# Altium schematic symbol library VC099_V13_20211125_Library.SchLib: 284 symbols (part 22 of 28)
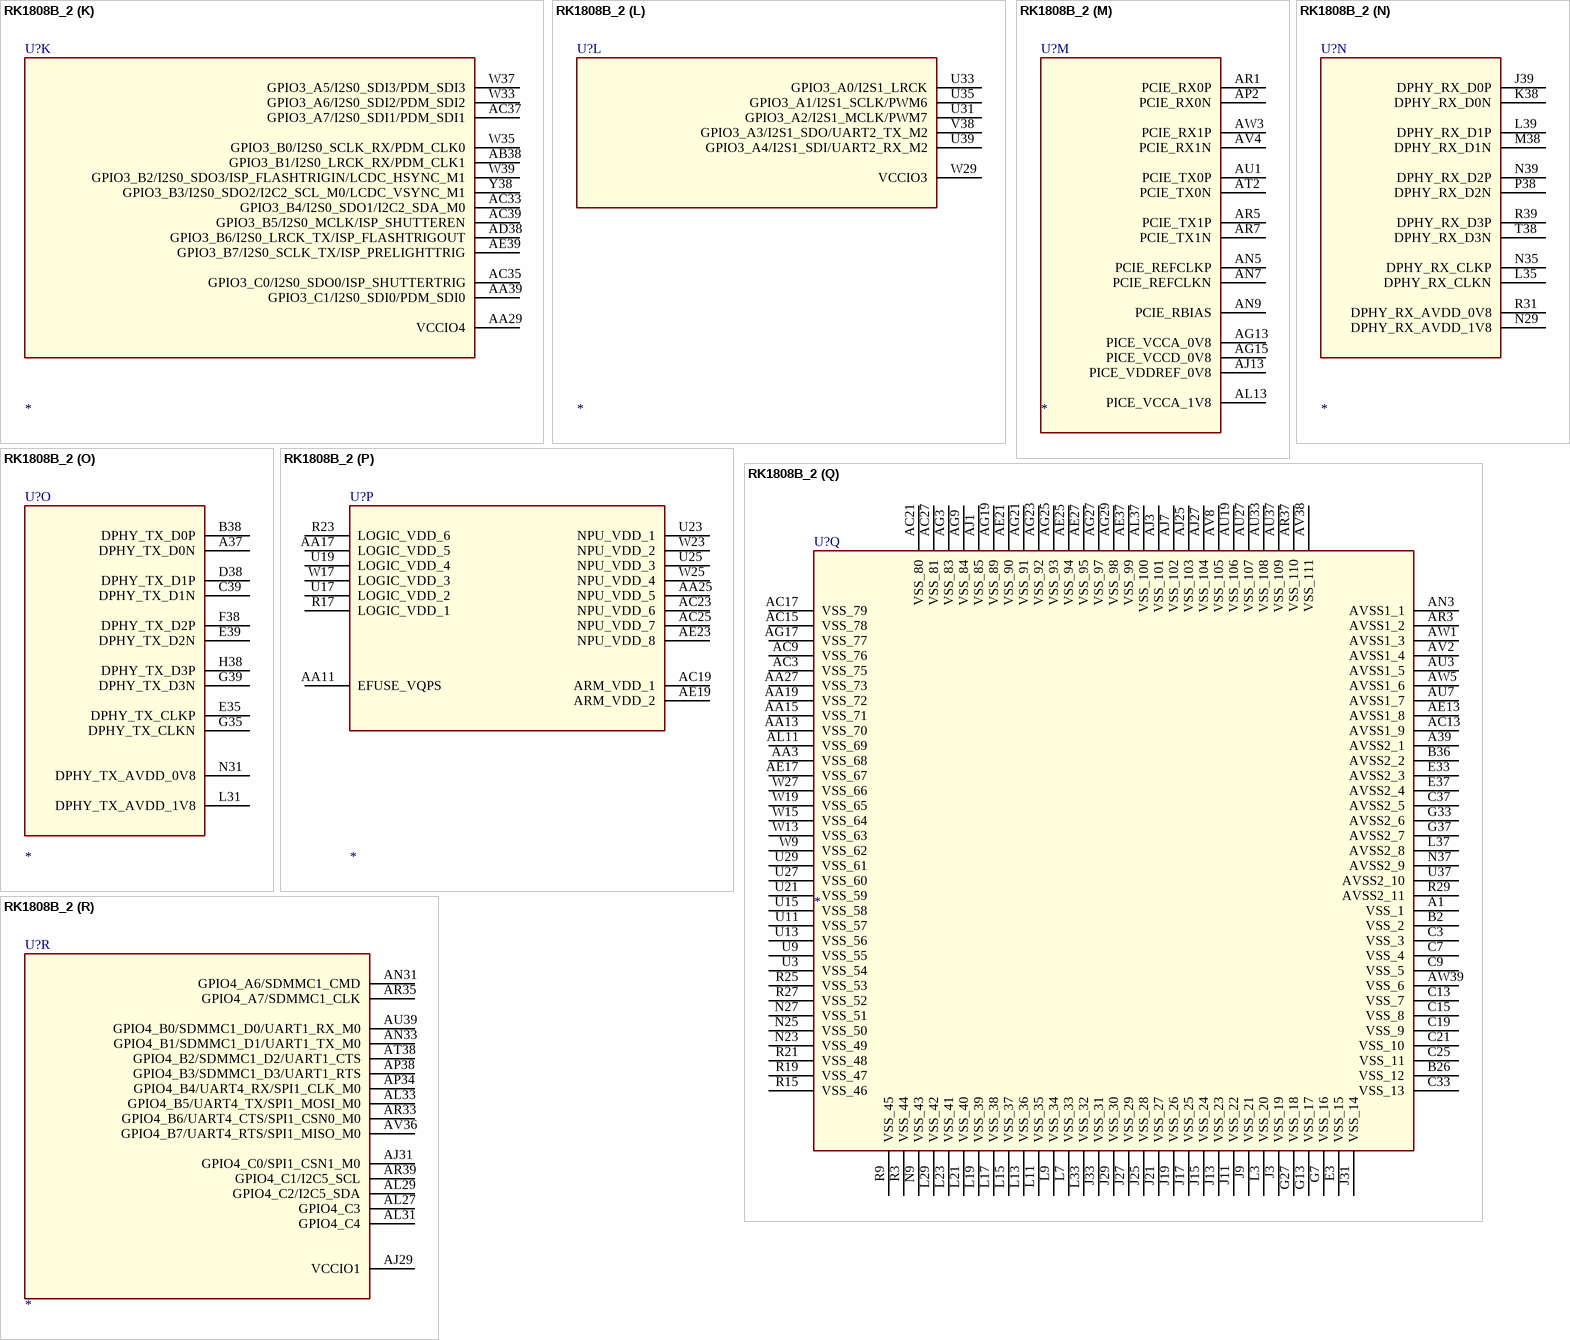
[diagram p384: symbol RK1808B_2]

## RK1808B_2
designator U?
SWAP_INFO: (S1+S2+S3+S4+S5+S6+S7+S8+S9+S10+S11+S12+S13+S14+S15+S16+S17+S18); SPLIT_INST: TRUE
part A pins: A3 DDR_DQ15, A5 DDR_DQ0, A7 DDR_DQ5, A9 DDR_DQ7, A11 DDR_DQ17, A13 DDR_DQ18, A15 DDR_DQ20, A17 DDR_DQ22, A19 DDR_DQ24, A21 DDR_DQ27, A23 DDR_DQ28, A25 DDR_DQ30, AA1 DDR_ODT0, AA5 DDR_A4, AA7 DDR_BG1, AA9 DDR_RZQ, AB2 DDR_A12, AC1 DDR_CSN0, AC5 DDR_CKE, AC7 DDR_A9, AD2 DDR_A10, AE1 DDR_A15, AF2 DDR_A16, AG1 DDR_ODT1, AG5 DDR_A14, AG7 DDR_A17, AH2 DDR_A13, AJ5 DDR_CSN1, B4 DDR_DQ14, B6 DDR_DQ2, B8 DDR_DQ4, B10 DDR_DQ6, B12 DDR_DQ16, B14 DDR_DQ21, B16 DDR_DQ23, B18 DDR_DQ25, B20 DDR_DQ26, B22 DDR_DQ29, B24 DDR_DQ31, C1 DDR_DQ13, D2 DDR_DQ12, E1 DDR_DQ11, E5 DDR_DM0, E7 DDR_DQ3, E9 DDR_DQS0N, E13 DDR_DM2, E15 DDR_DQS2N, E19 DDR_DM3, E21 DDR_DQS3N, F2 DDR_DQ10, F6 DDR_DQ1, G1 DDR_DQ8, G9 DDR_DQS0P, G15 DDR_DQS2P, G19 DDR_DQ19, G21 DDR_DQS3P, H2 DDR_DM1, J1 DDR_RESETN, J5 DDR_DQS1N, J7 DDR_DQS1P, J23 DDR_VERFO, K2 DDR_BG0, L1 DDR_CLKP, L5 DDR_DQ9, M2 DDR_CLKN, N1 DDR_ACTN, N11 DDR_VDD_3, N13 DDR_VDD_4, N15 DDR_VDD_5, N17 DDR_VDD_6, N19 DDR_VDD_7, N21 DDR_VDD_8, P2 DDR_A8, R1 DDR_A0, R5 DDR_BA0, R7 DDR_A11, R11 DDR_VDD_2, R13 DDR_AVSS, T2 DDR_A6, U1 DDR_A1, U5 DDR_A5, U7 DDR_A2, V2 DDR_A3, W1 DDR_A7, W11 DDR_VDD_1, Y2 DDR_BA1
part B pins: A29 GPIO1_A2/EMMC_D2/SFC_SIO2, A31 GPIO1_A4/EMMC_D4/SFC_CSN0, A33 GPIO1_A7/EMMC_D7/SPI2_CLK_M0, A35 GPIO1_B3/EMMC_RSTN, B28 GPIO1_A1/EMMC_D1/SFC_SIO1, B30 GPIO1_A3/EMMC_D3/SFC_SIO3, B32 GPIO1_A6/EMMC_D6/SPI2_MISO_M0, B34 GPIO1_B2/EMMC_CMD, C31 GPIO1_A5/EMMC_D5/SFC_CLK, E27 GPIO1_A0/EMMC_D0/SFC_SIO0, E31 GPIO1_B0/EMMC_PWREN/SPI2_MOSI_M0, G31 GPIO1_B1/EMMC_CLKOUT/SPI2_CSN_M0, L27 VCCIO0
part C pins: AA21 PLL_AVDD_0V8, AA23 PLL_AVDD_1V8, AE15 OSC_VSS, AG11 PPLL_AVDD_0V8, AJ11 PPLL_AVDD_1V8, AJ15 OSC_VDD_1V8, AJ17 PMU_VDD_0V8, AJ19 PMUIO1_VDD_1V8, AL17 GPIO0_A5, AL19 GPIO0_A7, AN19 GPIO0_A3/SDMMC0_DETN, AR19 GPIO0_A6/TSADC_SHUT_M0/TSADC_SHUTORG, AR21 GPIO0_A1/TSADC_SHUT_M1, AU21 GPIO0_A2/PCIE_BUTTONRST, AV6 OSC_24M_OUT, AV20 GPIO0_A0/REF_CLKO, AV22 OSC_BPASS, AW7 OSC_24M_IN, AW17 GPIO0_A4/PMIC_SLEEP, AW21 NPOR, W21 PLL_AVSS
part D pins: AL15 PMUIO2_VDD, AN13 GPIO0_B5/UART0_RTS/TEST_CLK1, AN15 GPIO0_B2/UART0_TX, AR9 GPIO0_C0/I2C1_SCL, AR13 GPIO0_C7/UART3_RTS, AR15 GPIO0_B4/UART0_CTS, AU9 GPIO0_B6/EMMC_VOLSEL/PCIE_PERST, AU13 GPIO0_B1/I2C0_SDA, AU15 GPIO0_C6/UART3_CTS/PCIE_REQN, AV10 DFTJTAG_TMS, AV12 GPIO0_C1/I2C1_SDA, AV14 GPIO0_B7/PWM0/OTG_DRV, AV16 GPIO0_C5/PWM2/PCIE_WAKE, AV18 GPIO0_C3/PWM1/UART3_TX, AW9 GPIO0_B3/UART0_RX, AW11 GPIO0_C4/PWM3/UART3_RX, AW13 GPIO0_C2/CLKIO_32K, AW15 DFTJTAG_TRSTN, AW19 GPIO0_B0/I2C0_SCL
part E pins: AC11 USB_AVDD_1V8, AE9 USB_AVDD_3V3, AE11 USB_AVDD_0V8, AJ9 USB_OTG_ID, AK2 USB_OTG_DM, AL1 USB_OTG_DP, AL9 USB_OTG_VBUS, AM2 USB_HOST_DM, AN1 USB_HOST_DP
part F pins: AA31 ADC_IN1, AC31 ADC_IN2, AE31 ADC_IN3, N33 ADC_AVDD_1V8, W31 ADC_IN0
part G pins: A27 GPIO1_B5/SPI0_MISO/I2C2_SDA_M1/UART1_TX_M1, C27 GPIO1_B4/SPI0_MOSI/I2C2_SCL_M1/UART1_RX_M1, E25 GPIO1_B7/SPI0_CLK/PWM5, G25 GPIO1_B6/SPI0_CSN/PWM4, L25 VCCIO5
part H pins: AC29 VCCIO6, AE33 GPIO4_A5/SDMMC0_D3/JTAG_TMS, AE35 GPIO4_A3/SDMMC0_D1/UART2_RX_M0, AF38 GPIO4_A4/SDMMC0_D2/JTAG_TCK, AG39 GPIO4_A2/SDMMC0_D0/UART2_TX_M0, AH38 GPIO4_A1/SDMMC0_CLK, AJ39 GPIO4_A0/SDMMC0_CMD/TEST_CLK0
part I pins: AJ21 GPIO2_A6/CIF_D4/RGMII_RXER/SPI2_MOSI_M1, AJ23 VCCIO2, AL21 GPIO2_A5/CIF_D3/RGMII_RXD1/SPI2_CLK_M1, AL23 GPIO2_C0/CIF_D0/CLKOUT_ETHERNET, AL25 GPIO2_D1/I2C3_SDA/UART2_RX_M1, AN21 GPIO2_A4/CIF_D2/RGMII_RXD0/SPI2_MISO_M1, AN25 GPIO2_C2/CIF_D10/RGMII_RXCLK/LCDC_D2, AN27 GPIO2_C4/LCDC_D4, AR25 GPIO2_B3/CIF_D9/RGMII_TXD3/LCDC_VSYNC_M0, AR27 GPIO2_B4/CIF_VSYNC/RGMII_TXD2, AR31 GPIO2_C5/LCDC_D5, AU25 GPIO2_A3/CIF_D15/RGMII_TXD0/LCDC_D1, AU31 GPIO2_B7/CIF_CLKOUT/RGMII_CLK, AV24 GPIO2_A2/CIF_D14/RGMII_TXD1/LCDC_D0, AV26 GPIO2_A7/CIF_D5/RGMII_RXDV/SPI2_CSN_M1, AV28 GPIO2_B2/CIF_D8/RGMII_MDC/LCDC_HSYNC_M0, AV30 GPIO2_B5/CIF_HREF/RGMII_RXD2, AV32 GPIO2_C1/CIF_D1/RGMII_TXCLK, AV34 GPIO2_C6/LCDC_CLK, AW23 GPIO2_A0/CIF_D12/RGMII_CRS/LCDC_D6, AW25 GPIO2_A1/CIF_D13/RGMII_TXEN/LCDC_D7, AW27 GPIO2_B0/CIF_D6/RGMII_MDIO, AW29 GPIO2_B1/CIF_D7/RGMII_COL, AW31 GPIO2_B6/CIF_CLKIN/RGMII_RXD3, AW33 GPIO2_C3/CIF_D11/LCDC_D3, AW35 GPIO2_C7/LCDC_DEN, AW37 GPIO2_D0/I2C3_SCL/UART2_TX_M1
part J pins: AE29 VCCIO7, AG31 GPIO3_D1/LCDC_D15/PWM9/SPI1_CSN0_M1, AJ33 GPIO3_C6/LCDC_D12/UART7_TX, AJ35 GPIO3_D0/LCDC_D14/PWM8/SPI1_MOSI_M1, AJ37 GPIO3_D3/LCDC_D17/PWM11/SPI1_CSN1_M1, AK38 GPIO3_D2/LCDC_D16/PWM10/SPI1_MISO_M1, AL35 GPIO3_C7/LCDC_D13/UART7_RX/SPI1_CLK_M1, AL39 GPIO3_C4/LCDC_D10/UART6_TX, AM38 GPIO3_C3/LCDC_D9/UART5_RX/I2C4_SDA, AN37 GPIO3_C2/LCDC_D8/UART5_TX/I2C4_SCL, AN39 GPIO3_C5/LCDC_D11/UART6_RX
part K pins: AA29 VCCIO4, AA39 GPIO3_C1/I2S0_SDI0/PDM_SDI0, AB38 GPIO3_B1/I2S0_LRCK_RX/PDM_CLK1, AC33 GPIO3_B4/I2S0_SDO1/I2C2_SDA_M0, AC35 GPIO3_C0/I2S0_SDO0/ISP_SHUTTERTRIG, AC37 GPIO3_A7/I2S0_SDI1/PDM_SDI1, AC39 GPIO3_B5/I2S0_MCLK/ISP_SHUTTEREN, AD38 GPIO3_B6/I2S0_LRCK_TX/ISP_FLASHTRIGOUT, AE39 GPIO3_B7/I2S0_SCLK_TX/ISP_PRELIGHTTRIG, W33 GPIO3_A6/I2S0_SDI2/PDM_SDI2, W35 GPIO3_B0/I2S0_SCLK_RX/PDM_CLK0, W37 GPIO3_A5/I2S0_SDI3/PDM_SDI3, W39 GPIO3_B2/I2S0_SDO3/ISP_FLASHTRIGIN/LCDC_HSYNC_M1, Y38 GPIO3_B3/I2S0_SDO2/I2C2_SCL_M0/LCDC_VSYNC_M1
part L pins: U31 GPIO3_A2/I2S1_MCLK/PWM7, U33 GPIO3_A0/I2S1_LRCK, U35 GPIO3_A1/I2S1_SCLK/PWM6, U39 GPIO3_A4/I2S1_SDI/UART2_RX_M2, V38 GPIO3_A3/I2S1_SDO/UART2_TX_M2, W29 VCCIO3
part M pins: AG13 PICE_VCCA_0V8, AG15 PICE_VCCD_0V8, AJ13 PICE_VDDREF_0V8, AL13 PICE_VCCA_1V8, AN5 PCIE_REFCLKP, AN7 PCIE_REFCLKN, AN9 PCIE_RBIAS, AP2 PCIE_RX0N, AR1 PCIE_RX0P, AR5 PCIE_TX1P, AR7 PCIE_TX1N, AT2 PCIE_TX0N, AU1 PCIE_TX0P, AV4 PCIE_RX1N, AW3 PCIE_RX1P
part N pins: J39 DPHY_RX_D0P, K38 DPHY_RX_D0N, L35 DPHY_RX_CLKN, L39 DPHY_RX_D1P, M38 DPHY_RX_D1N, N29 DPHY_RX_AVDD_1V8, N35 DPHY_RX_CLKP, N39 DPHY_RX_D2P, P38 DPHY_RX_D2N, R31 DPHY_RX_AVDD_0V8, R39 DPHY_RX_D3P, T38 DPHY_RX_D3N
part O pins: A37 DPHY_TX_D0N, B38 DPHY_TX_D0P, C39 DPHY_TX_D1N, D38 DPHY_TX_D1P, E35 DPHY_TX_CLKP, E39 DPHY_TX_D2N, F38 DPHY_TX_D2P, G35 DPHY_TX_CLKN, G39 DPHY_TX_D3N, H38 DPHY_TX_D3P, L31 DPHY_TX_AVDD_1V8, N31 DPHY_TX_AVDD_0V8
part P pins: AA11 EFUSE_VQPS, AA17 LOGIC_VDD_5, AA25 NPU_VDD_5, AC19 ARM_VDD_1, AC23 NPU_VDD_6, AC25 NPU_VDD_7, AE19 ARM_VDD_2, AE23 NPU_VDD_8, R17 LOGIC_VDD_1, R23 LOGIC_VDD_6, U17 LOGIC_VDD_2, U19 LOGIC_VDD_4, U23 NPU_VDD_1, U25 NPU_VDD_3, W17 LOGIC_VDD_3, W23 NPU_VDD_2, W25 NPU_VDD_4
part Q pins: A1 VSS_1, A39 AVSS2_1, AA3 VSS_68, AA13 VSS_70, AA15 VSS_71, AA19 VSS_72, AA27 VSS_73, AC3 VSS_75, AC9 VSS_76, AC13 AVSS1_9, AC15 VSS_78, AC17 VSS_79, AC21 VSS_80, AC27 VSS_81, AE13 AVSS1_8, AE17 VSS_67, AE21 VSS_90, AE25 VSS_94, AE27 VSS_95, AE37 VSS_99, AG3 VSS_83, AG9 VSS_84, AG17 VSS_77, AG19 VSS_89, AG21 VSS_91, AG23 VSS_92, AG25 VSS_93, AG27 VSS_97, AG29 VSS_98, AJ1 VSS_85, AJ3 VSS_101, AJ7 VSS_102, AJ25 VSS_103, AJ27 VSS_104, AL11 VSS_69, AL37 VSS_100, AN3 AVSS1_1, AR3 AVSS1_2, AR37 VSS_110, AU3 AVSS1_5, AU7 AVSS1_7, AU19 VSS_106, AU27 VSS_107, AU33 VSS_108, AU37 VSS_109, AV2 AVSS1_4, AV8 VSS_105, AV38 VSS_111, AW1 AVSS1_3, AW5 AVSS1_6, AW39 VSS_6, B2 VSS_2, B26 VSS_12, B36 AVSS2_2, C3 VSS_3, C7 VSS_4, C9 VSS_5, C13 VSS_7, C15 VSS_8, C19 VSS_9, C21 VSS_10, C25 VSS_11, C33 VSS_13, C37 AVSS2_5, E3 VSS_15, E33 AVSS2_3, E37 AVSS2_4, G7 VSS_16, G13 VSS_17, G27 VSS_18, G33 AVSS2_6, G37 AVSS2_7, J3 VSS_19, J9 VSS_21, J11 VSS_22, J13 VSS_23, J15 VSS_24, J17 VSS_25, J19 VSS_26, J21 VSS_27, J25 VSS_28, J27 VSS_29, J29 VSS_30, J31 VSS_14, J33 VSS_31, L3 VSS_20, L7 VSS_33, L9 VSS_34, L11 VSS_35, L13 VSS_36, L15 VSS_37, L17 VSS_38, L19 VSS_39, L21 VSS_40, L23 VSS_41, L29 VSS_42, L33 VSS_32, L37 AVSS2_8, N9 VSS_43, N23 VSS_49, N25 VSS_50, N27 VSS_51, N37 AVSS2_9, R3 VSS_44, R9 VSS_45, R15 VSS_46, R19 VSS_47, R21 VSS_48, R25 VSS_53, R27 VSS_52, R29 AVSS2_11, U3 VSS_54, U9 VSS_55, U11 VSS_57, U13 VSS_56, U15 VSS_58, U21 VSS_59, U27 VSS_60, U29 VSS_61, U37 AVSS2_10, W9 VSS_62, W13 VSS_63, W15 VSS_64, W19 VSS_65, W27 VSS_66
part R pins: AJ29 VCCIO1, AJ31 GPIO4_C0/SPI1_CSN1_M0, AL27 GPIO4_C3, AL29 GPIO4_C2/I2C5_SDA, AL31 GPIO4_C4, AL33 GPIO4_B5/UART4_TX/SPI1_MOSI_M0, AN31 GPIO4_A6/SDMMC1_CMD, AN33 GPIO4_B1/SDMMC1_D1/UART1_TX_M0, AP34 GPIO4_B4/UART4_RX/SPI1_CLK_M0, AP38 GPIO4_B3/SDMMC1_D3/UART1_RTS, AR33 GPIO4_B6/UART4_CTS/SPI1_CSN0_M0, AR35 GPIO4_A7/SDMMC1_CLK, AR39 GPIO4_C1/I2C5_SCL, AT38 GPIO4_B2/SDMMC1_D2/UART1_CTS, AU39 GPIO4_B0/SDMMC1_D0/UART1_RX_M0, AV36 GPIO4_B7/UART4_RTS/SPI1_MISO_M0

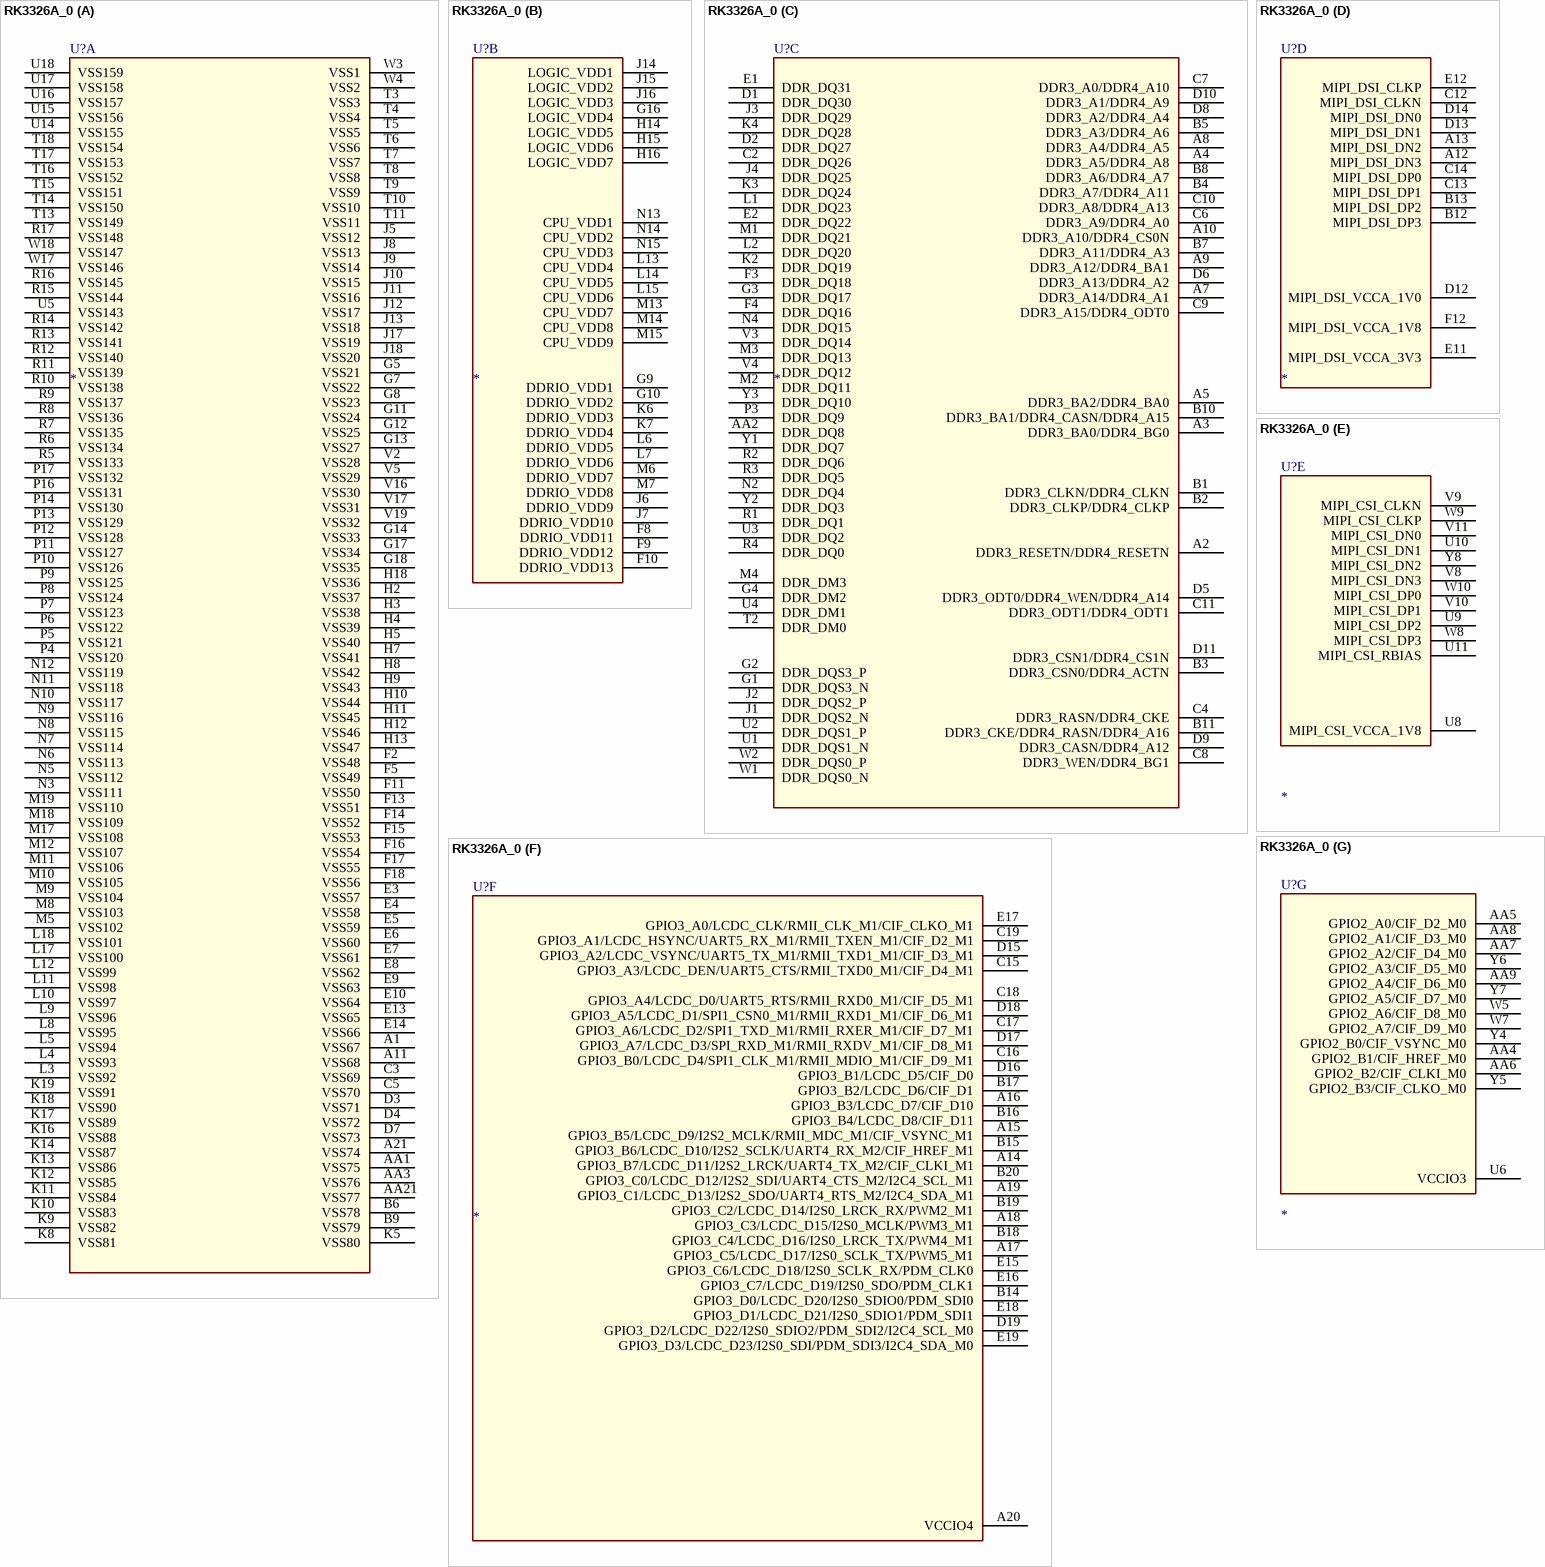
[diagram p296: symbol RK3326A_0]

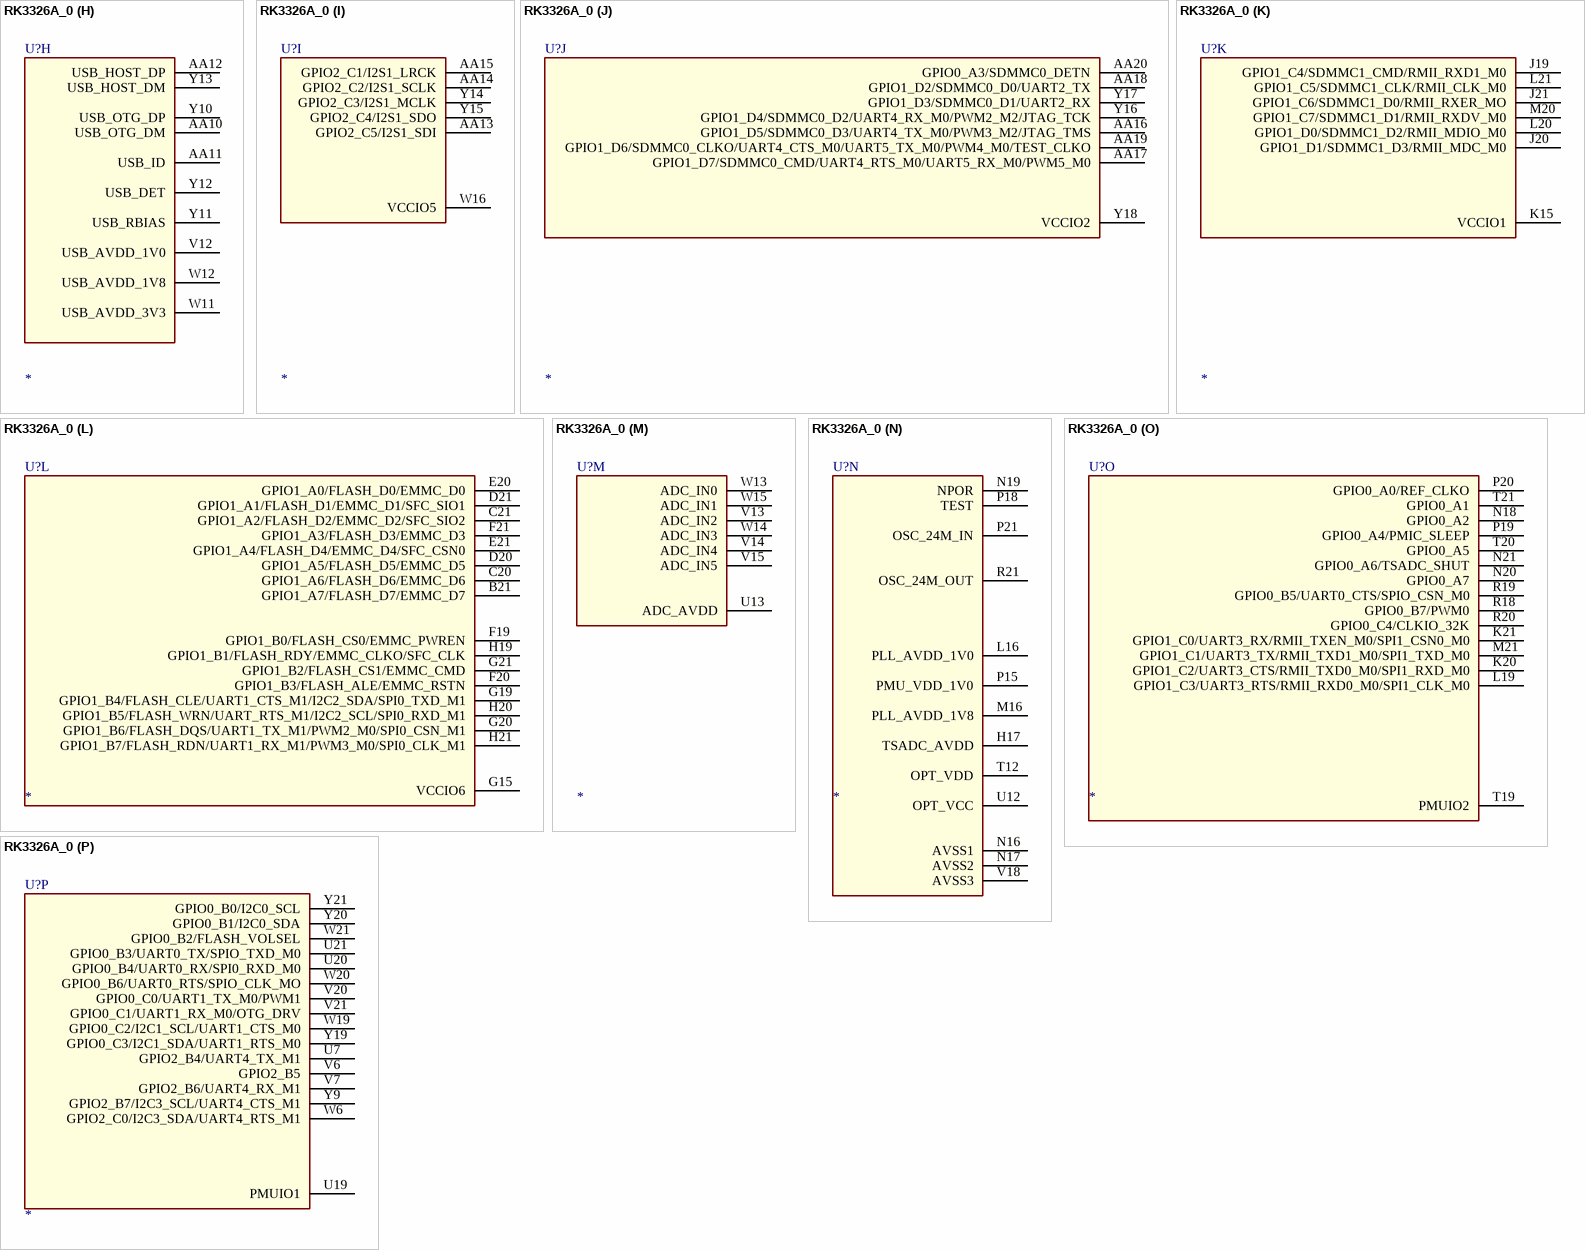
[diagram p297: symbol RK3326A_0]

## RK3326A_0
designator U?
SPLIT_INST: TRUE; SWAP_INFO: (S1+S2+S3+S4+S5+S6+S7+S8+S9+S10+S11+S12+S13+S14+S15+S16)
part A pins: A1 VSS67, A11 VSS68, A21 VSS74, AA1 VSS75, AA3 VSS76, AA21 VSS77, B6 VSS78, B9 VSS79, C3 VSS69, C5 VSS70, D3 VSS71, D4 VSS72, D7 VSS73, E3 VSS57, E4 VSS58, E5 VSS59, E6 VSS60, E7 VSS61, E8 VSS62, E9 VSS63, E10 VSS64, E13 VSS65, E14 VSS66, F2 VSS48, F5 VSS49, F11 VSS50, F13 VSS51, F14 VSS52, F15 VSS53, F16 VSS54, F17 VSS55, F18 VSS56, G5 VSS21, G7 VSS22, G8 VSS23, G11 VSS24, G12 VSS25, G13 VSS27, G14 VSS33, G17 VSS34, G18 VSS35, H2 VSS37, H3 VSS38, H4 VSS39, H5 VSS40, H7 VSS41, H8 VSS42, H9 VSS43, H10 VSS44, H11 VSS45, H12 VSS46, H13 VSS47, H18 VSS36, J5 VSS12, J8 VSS13, J9 VSS14, J10 VSS15, J11 VSS16, J12 VSS17, J13 VSS18, J17 VSS19, J18 VSS20, K5 VSS80, K8 VSS81, K9 VSS82, K10 VSS83, K11 VSS84, K12 VSS85, K13 VSS86, K14 VSS87, K16 VSS88, K17 VSS89, K18 VSS90, K19 VSS91, L3 VSS92, L4 VSS93, L5 VSS94, L8 VSS95, L9 VSS96, L10 VSS97, L11 VSS98, L12 VSS99, L17 VSS100, L18 VSS101, M5 VSS102, M8 VSS103, M9 VSS104, M10 VSS105, M11 VSS106, M12 VSS107, M17 VSS108, M18 VSS109, M19 VSS110, N3 VSS111, N5 VSS112, N6 VSS113, N7 VSS114, N8 VSS115, N9 VSS116, N10 VSS117, N11 VSS118, N12 VSS119, P4 VSS120, P5 VSS121, P6 VSS122, P7 VSS123, P8 VSS124, P9 VSS125, P10 VSS126, P11 VSS127, P12 VSS128, P13 VSS129, P14 VSS130, P16 VSS131, P17 VSS132, R5 VSS133, R6 VSS134, R7 VSS135, R8 VSS136, R9 VSS137, R10 VSS138, R11 VSS139, R12 VSS140, R13 VSS141, R14 VSS142, R15 VSS144, R16 VSS145, R17 VSS148, T3 VSS3, T4 VSS4, T5 VSS5, T6 VSS6, T7 VSS7, T8 VSS8, T9 VSS9, T10 VSS10, T11 VSS11, T13 VSS149, T14 VSS150, T15 VSS151, T16 VSS152, T17 VSS153, T18 VSS154, U5 VSS143, U14 VSS155, U15 VSS156, U16 VSS157, U17 VSS158, U18 VSS159, V2 VSS28, V5 VSS29, V16 VSS30, V17 VSS31, V19 VSS32, W3 VSS1, W4 VSS2, W17 VSS146, W18 VSS147
part B pins: F8 DDRIO_VDD11, F9 DDRIO_VDD12, F10 DDRIO_VDD13, G9 DDRIO_VDD1, G10 DDRIO_VDD2, G16 LOGIC_VDD4, H14 LOGIC_VDD5, H15 LOGIC_VDD6, H16 LOGIC_VDD7, J6 DDRIO_VDD9, J7 DDRIO_VDD10, J14 LOGIC_VDD1, J15 LOGIC_VDD2, J16 LOGIC_VDD3, K6 DDRIO_VDD3, K7 DDRIO_VDD4, L6 DDRIO_VDD5, L7 DDRIO_VDD6, L13 CPU_VDD4, L14 CPU_VDD5, L15 CPU_VDD6, M6 DDRIO_VDD7, M7 DDRIO_VDD8, M13 CPU_VDD7, M14 CPU_VDD8, M15 CPU_VDD9, N13 CPU_VDD1, N14 CPU_VDD2, N15 CPU_VDD3
part C pins: A2 DDR3_RESETN/DDR4_RESETN, A3 DDR3_BA0/DDR4_BG0, A4 DDR3_A5/DDR4_A8, A5 DDR3_BA2/DDR4_BA0, A7 DDR3_A14/DDR4_A1, A8 DDR3_A4/DDR4_A5, A9 DDR3_A12/DDR4_BA1, A10 DDR3_A10/DDR4_CS0N, AA2 DDR_DQ8, B1 DDR3_CLKN/DDR4_CLKN, B2 DDR3_CLKP/DDR4_CLKP, B3 DDR3_CSN0/DDR4_ACTN, B4 DDR3_A7/DDR4_A11, B5 DDR3_A3/DDR4_A6, B7 DDR3_A11/DDR4_A3, B8 DDR3_A6/DDR4_A7, B10 DDR3_BA1/DDR4_CASN/DDR4_A15, B11 DDR3_CKE/DDR4_RASN/DDR4_A16, C2 DDR_DQ26, C4 DDR3_RASN/DDR4_CKE, C6 DDR3_A9/DDR4_A0, C7 DDR3_A0/DDR4_A10, C8 DDR3_WEN/DDR4_BG1, C9 DDR3_A15/DDR4_ODT0, C10 DDR3_A8/DDR4_A13, C11 DDR3_ODT1/DDR4_ODT1, D1 DDR_DQ30, D2 DDR_DQ27, D5 DDR3_ODT0/DDR4_WEN/DDR4_A14, D6 DDR3_A13/DDR4_A2, D8 DDR3_A2/DDR4_A4, D9 DDR3_CASN/DDR4_A12, D10 DDR3_A1/DDR4_A9, D11 DDR3_CSN1/DDR4_CS1N, E1 DDR_DQ31, E2 DDR_DQ22, F3 DDR_DQ18, F4 DDR_DQ16, G1 DDR_DQS3_N, G2 DDR_DQS3_P, G3 DDR_DQ17, G4 DDR_DM2, J1 DDR_DQS2_N, J2 DDR_DQS2_P, J3 DDR_DQ29, J4 DDR_DQ25, K2 DDR_DQ19, K3 DDR_DQ24, K4 DDR_DQ28, L1 DDR_DQ23, L2 DDR_DQ20, M1 DDR_DQ21, M2 DDR_DQ11, M3 DDR_DQ13, M4 DDR_DM3, N2 DDR_DQ4, N4 DDR_DQ15, P3 DDR_DQ9, R1 DDR_DQ1, R2 DDR_DQ6, R3 DDR_DQ5, R4 DDR_DQ0, T2 DDR_DM0, U1 DDR_DQS1_N, U2 DDR_DQS1_P, U3 DDR_DQ2, U4 DDR_DM1, V3 DDR_DQ14, V4 DDR_DQ12, W1 DDR_DQS0_N, W2 DDR_DQS0_P, Y1 DDR_DQ7, Y2 DDR_DQ3, Y3 DDR_DQ10
part D pins: A12 MIPI_DSI_DN3, A13 MIPI_DSI_DN2, B12 MIPI_DSI_DP3, B13 MIPI_DSI_DP2, C12 MIPI_DSI_CLKN, C13 MIPI_DSI_DP1, C14 MIPI_DSI_DP0, D12 MIPI_DSI_VCCA_1V0, D13 MIPI_DSI_DN1, D14 MIPI_DSI_DN0, E11 MIPI_DSI_VCCA_3V3, E12 MIPI_DSI_CLKP, F12 MIPI_DSI_VCCA_1V8
part E pins: U8 MIPI_CSI_VCCA_1V8, U9 MIPI_CSI_DP2, U10 MIPI_CSI_DN1, U11 MIPI_CSI_RBIAS, V8 MIPI_CSI_DN3, V9 MIPI_CSI_CLKN, V10 MIPI_CSI_DP1, V11 MIPI_CSI_DN0, W8 MIPI_CSI_DP3, W9 MIPI_CSI_CLKP, W10 MIPI_CSI_DP0, Y8 MIPI_CSI_DN2
part F pins: A14 GPIO3_B7/LCDC_D11/I2S2_LRCK/UART4_TX_M2/CIF_CLKI_M1, A15 GPIO3_B5/LCDC_D9/I2S2_MCLK/RMII_MDC_M1/CIF_VSYNC_M1, A16 GPIO3_B3/LCDC_D7/CIF_D10, A17 GPIO3_C5/LCDC_D17/I2S0_SCLK_TX/PWM5_M1, A18 GPIO3_C3/LCDC_D15/I2S0_MCLK/PWM3_M1, A19 GPIO3_C1/LCDC_D13/I2S2_SDO/UART4_RTS_M2/I2C4_SDA_M1, A20 VCCIO4, B14 GPIO3_D0/LCDC_D20/I2S0_SDIO0/PDM_SDI0, B15 GPIO3_B6/LCDC_D10/I2S2_SCLK/UART4_RX_M2/CIF_HREF_M1, B16 GPIO3_B4/LCDC_D8/CIF_D11, B17 GPIO3_B2/LCDC_D6/CIF_D1, B18 GPIO3_C4/LCDC_D16/I2S0_LRCK_TX/PWM4_M1, B19 GPIO3_C2/LCDC_D14/I2S0_LRCK_RX/PWM2_M1, B20 GPIO3_C0/LCDC_D12/I2S2_SDI/UART4_CTS_M2/I2C4_SCL_M1, C15 GPIO3_A3/LCDC_DEN/UART5_CTS/RMII_TXD0_M1/CIF_D4_M1, C16 GPIO3_B0/LCDC_D4/SPI1_CLK_M1/RMII_MDIO_M1/CIF_D9_M1, C17 GPIO3_A6/LCDC_D2/SPI1_TXD_M1/RMII_RXER_M1/CIF_D7_M1, C18 GPIO3_A4/LCDC_D0/UART5_RTS/RMII_RXD0_M1/CIF_D5_M1, C19 GPIO3_A1/LCDC_HSYNC/UART5_RX_M1/RMII_TXEN_M1/CIF_D2_M1, D15 GPIO3_A2/LCDC_VSYNC/UART5_TX_M1/RMII_TXD1_M1/CIF_D3_M1, D16 GPIO3_B1/LCDC_D5/CIF_D0, D17 GPIO3_A7/LCDC_D3/SPI_RXD_M1/RMII_RXDV_M1/CIF_D8_M1, D18 GPIO3_A5/LCDC_D1/SPI1_CSN0_M1/RMII_RXD1_M1/CIF_D6_M1, D19 GPIO3_D2/LCDC_D22/I2S0_SDIO2/PDM_SDI2/I2C4_SCL_M0, E15 GPIO3_C6/LCDC_D18/I2S0_SCLK_RX/PDM_CLK0, E16 GPIO3_C7/LCDC_D19/I2S0_SDO/PDM_CLK1, E17 GPIO3_A0/LCDC_CLK/RMII_CLK_M1/CIF_CLKO_M1, E18 GPIO3_D1/LCDC_D21/I2S0_SDIO1/PDM_SDI1, E19 GPIO3_D3/LCDC_D23/I2S0_SDI/PDM_SDI3/I2C4_SDA_M0
part G pins: AA4 GPIO2_B1/CIF_HREF_M0, AA5 GPIO2_A0/CIF_D2_M0, AA6 GPIO2_B2/CIF_CLKI_M0, AA7 GPIO2_A2/CIF_D4_M0, AA8 GPIO2_A1/CIF_D3_M0, AA9 GPIO2_A4/CIF_D6_M0, U6 VCCIO3, W5 GPIO2_A6/CIF_D8_M0, W7 GPIO2_A7/CIF_D9_M0, Y4 GPIO2_B0/CIF_VSYNC_M0, Y5 GPIO2_B3/CIF_CLKO_M0, Y6 GPIO2_A3/CIF_D5_M0, Y7 GPIO2_A5/CIF_D7_M0
part H pins: AA10 USB_OTG_DM, AA11 USB_ID, AA12 USB_HOST_DP, V12 USB_AVDD_1V0, W11 USB_AVDD_3V3, W12 USB_AVDD_1V8, Y10 USB_OTG_DP, Y11 USB_RBIAS, Y12 USB_DET, Y13 USB_HOST_DM
part I pins: AA13 GPIO2_C5/I2S1_SDI, AA14 GPIO2_C2/I2S1_SCLK, AA15 GPIO2_C1/I2S1_LRCK, W16 VCCIO5, Y14 GPIO2_C3/I2S1_MCLK, Y15 GPIO2_C4/I2S1_SDO
part J pins: AA16 GPIO1_D5/SDMMC0_D3/UART4_TX_M0/PWM3_M2/JTAG_TMS, AA17 GPIO1_D7/SDMMC0_CMD/UART4_RTS_M0/UART5_RX_M0/PWM5_M0, AA18 GPIO1_D2/SDMMC0_D0/UART2_TX, AA19 GPIO1_D6/SDMMC0_CLKO/UART4_CTS_M0/UART5_TX_M0/PWM4_M0/TEST_CLKO, AA20 GPIO0_A3/SDMMC0_DETN, Y16 GPIO1_D4/SDMMC0_D2/UART4_RX_M0/PWM2_M2/JTAG_TCK, Y17 GPIO1_D3/SDMMC0_D1/UART2_RX, Y18 VCCIO2
part K pins: J19 GPIO1_C4/SDMMC1_CMD/RMII_RXD1_M0, J20 GPIO1_D1/SDMMC1_D3/RMII_MDC_M0, J21 GPIO1_C6/SDMMC1_D0/RMII_RXER_MO, K15 VCCIO1, L20 GPIO1_D0/SDMMC1_D2/RMII_MDIO_M0, L21 GPIO1_C5/SDMMC1_CLK/RMII_CLK_M0, M20 GPIO1_C7/SDMMC1_D1/RMII_RXDV_M0
part L pins: B21 GPIO1_A7/FLASH_D7/EMMC_D7, C20 GPIO1_A6/FLASH_D6/EMMC_D6, C21 GPIO1_A2/FLASH_D2/EMMC_D2/SFC_SIO2, D20 GPIO1_A5/FLASH_D5/EMMC_D5, D21 GPIO1_A1/FLASH_D1/EMMC_D1/SFC_SIO1, E20 GPIO1_A0/FLASH_D0/EMMC_D0, E21 GPIO1_A4/FLASH_D4/EMMC_D4/SFC_CSN0, F19 GPIO1_B0/FLASH_CS0/EMMC_PWREN, F20 GPIO1_B3/FLASH_ALE/EMMC_RSTN, F21 GPIO1_A3/FLASH_D3/EMMC_D3, G15 VCCIO6, G19 GPIO1_B4/FLASH_CLE/UART1_CTS_M1/I2C2_SDA/SPI0_TXD_M1, G20 GPIO1_B6/FLASH_DQS/UART1_TX_M1/PWM2_M0/SPI0_CSN_M1, G21 GPIO1_B2/FLASH_CS1/EMMC_CMD, H19 GPIO1_B1/FLASH_RDY/EMMC_CLKO/SFC_CLK, H20 GPIO1_B5/FLASH_WRN/UART_RTS_M1/I2C2_SCL/SPI0_RXD_M1, H21 GPIO1_B7/FLASH_RDN/UART1_RX_M1/PWM3_M0/SPI0_CLK_M1
part M pins: U13 ADC_AVDD, V13 ADC_IN2, V14 ADC_IN4, V15 ADC_IN5, W13 ADC_IN0, W14 ADC_IN3, W15 ADC_IN1
part N pins: H17 TSADC_AVDD, L16 PLL_AVDD_1V0, M16 PLL_AVDD_1V8, N16 AVSS1, N17 AVSS2, N19 NPOR, P15 PMU_VDD_1V0, P18 TEST, P21 OSC_24M_IN, R21 OSC_24M_OUT, T12 OPT_VDD, U12 OPT_VCC, V18 AVSS3
part O pins: K20 GPIO1_C2/UART3_CTS/RMII_TXD0_M0/SPI1_RXD_M0, K21 GPIO1_C0/UART3_RX/RMII_TXEN_M0/SPI1_CSN0_M0, L19 GPIO1_C3/UART3_RTS/RMII_RXD0_M0/SPI1_CLK_M0, M21 GPIO1_C1/UART3_TX/RMII_TXD1_M0/SPI1_TXD_M0, N18 GPIO0_A2, N20 GPIO0_A7, N21 GPIO0_A6/TSADC_SHUT, P19 GPIO0_A4/PMIC_SLEEP, P20 GPIO0_A0/REF_CLKO, R18 GPIO0_B7/PWM0, R19 GPIO0_B5/UART0_CTS/SPIO_CSN_M0, R20 GPIO0_C4/CLKIO_32K, T19 PMUIO2, T20 GPIO0_A5, T21 GPIO0_A1
part P pins: U7 GPIO2_B4/UART4_TX_M1, U19 PMUIO1, U20 GPIO0_B4/UART0_RX/SPI0_RXD_M0, U21 GPIO0_B3/UART0_TX/SPIO_TXD_M0, V6 GPIO2_B5, V7 GPIO2_B6/UART4_RX_M1, V20 GPIO0_C0/UART1_TX_M0/PWM1, V21 GPIO0_C1/UART1_RX_M0/OTG_DRV, W6 GPIO2_C0/I2C3_SDA/UART4_RTS_M1, W19 GPIO0_C2/I2C1_SCL/UART1_CTS_M0, W20 GPIO0_B6/UART0_RTS/SPIO_CLK_MO, W21 GPIO0_B2/FLASH_VOLSEL, Y9 GPIO2_B7/I2C3_SCL/UART4_CTS_M1, Y19 GPIO0_C3/I2C1_SDA/UART1_RTS_M0, Y20 GPIO0_B1/I2C0_SDA, Y21 GPIO0_B0/I2C0_SCL

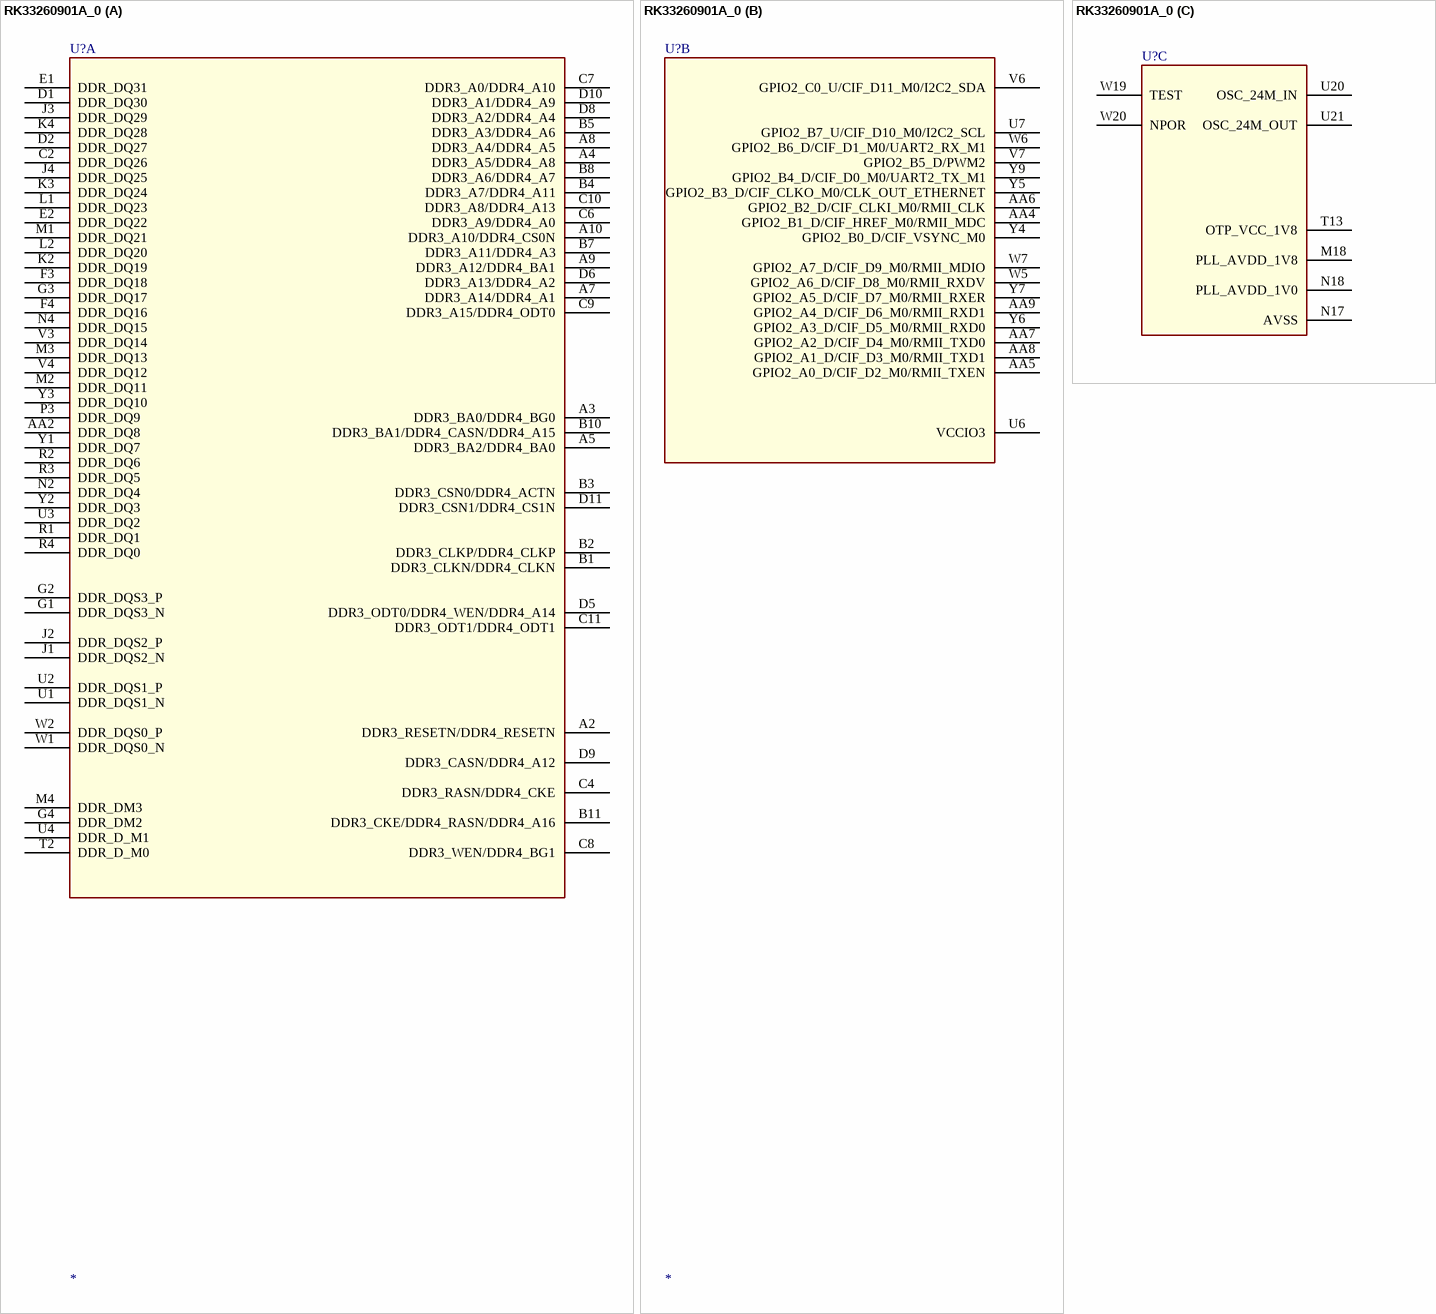
[diagram p298: symbol RK33260901A_0]

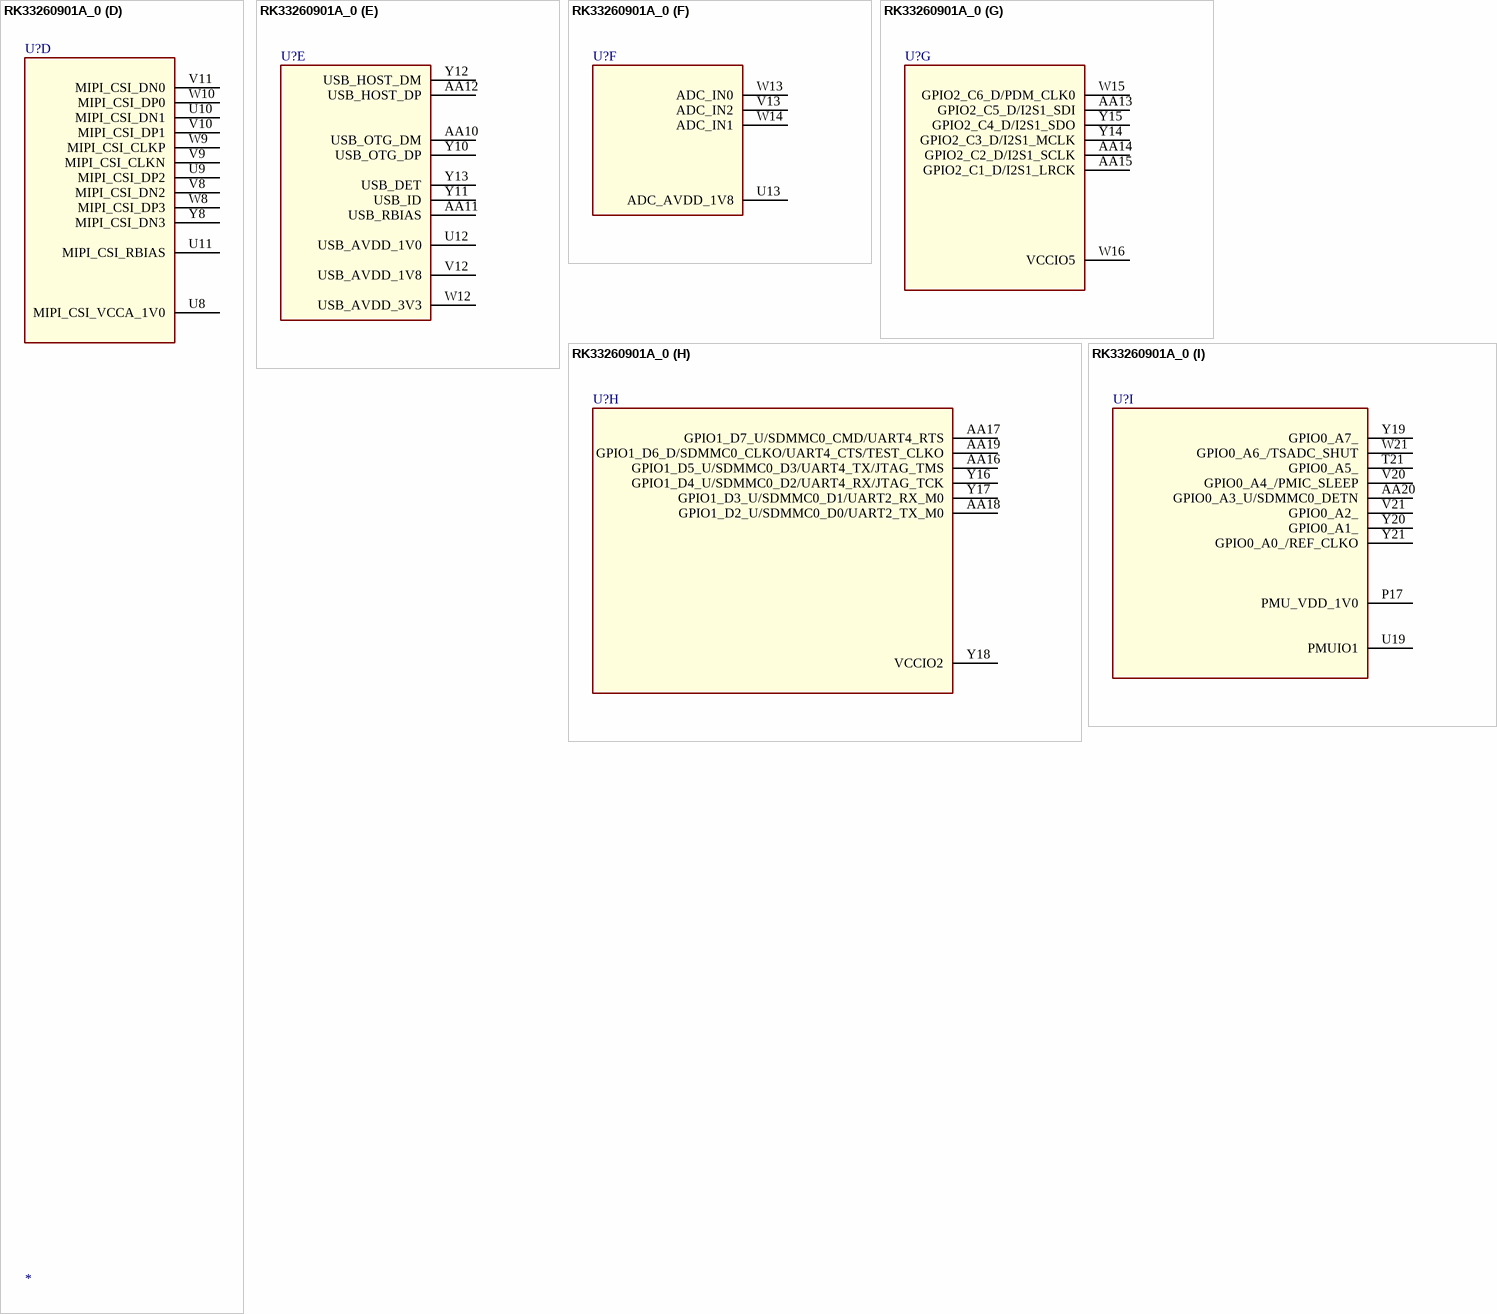
[diagram p299: symbol RK33260901A_0]

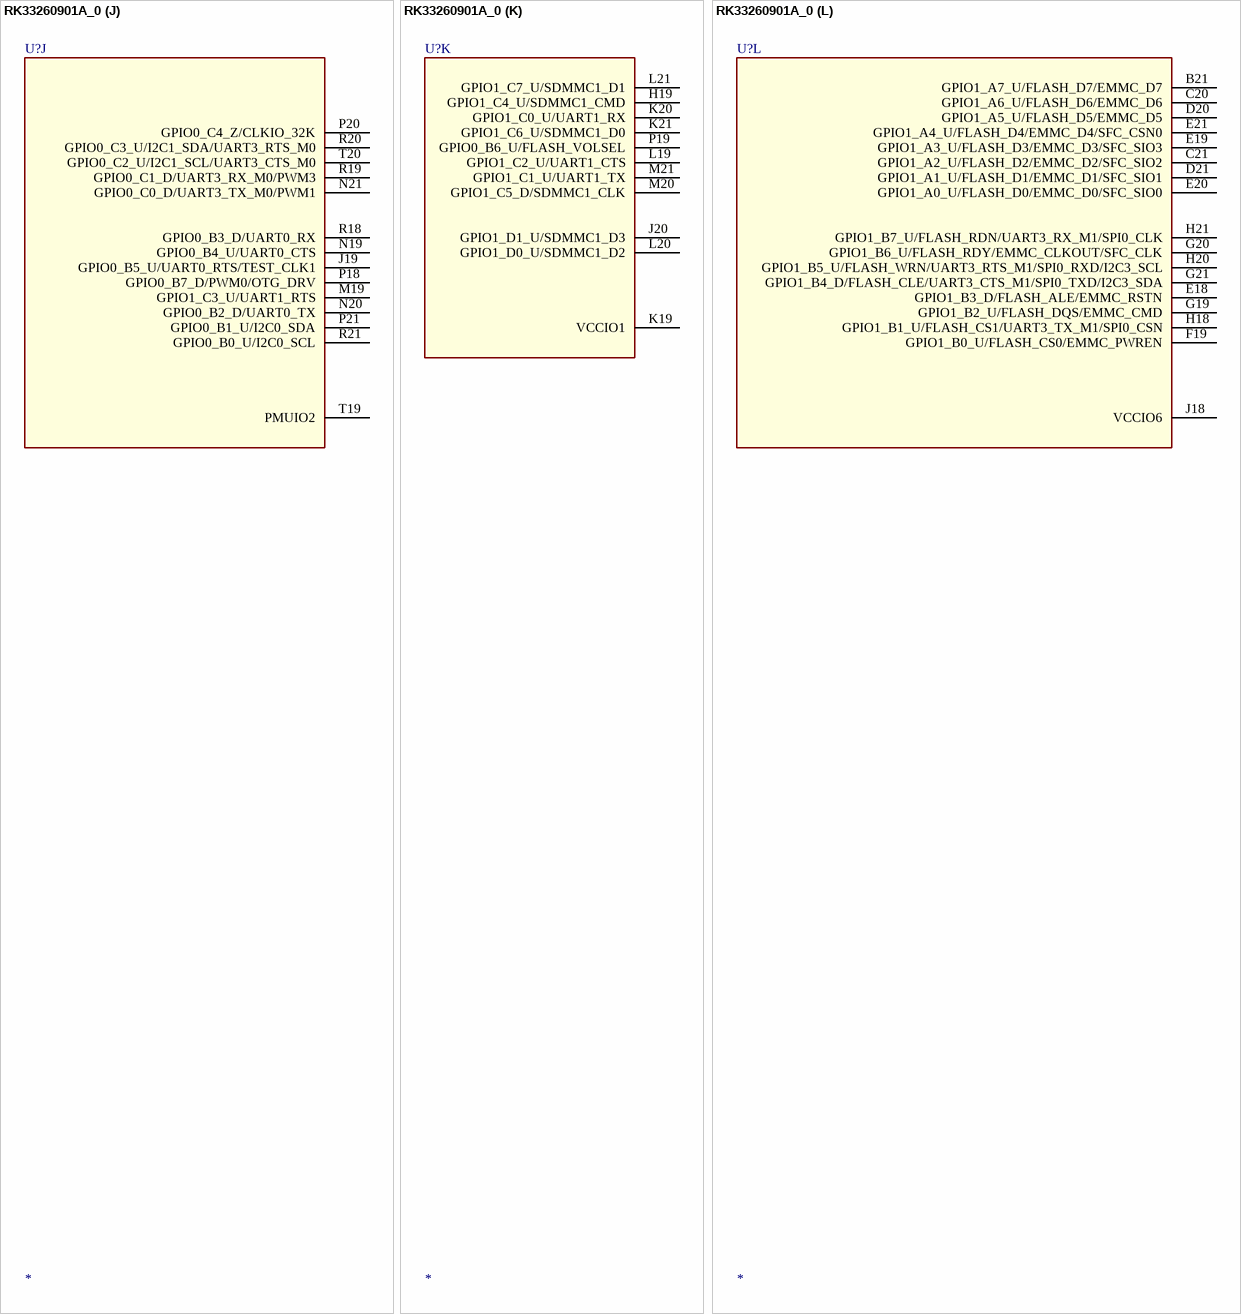
[diagram p300: symbol RK33260901A_0]

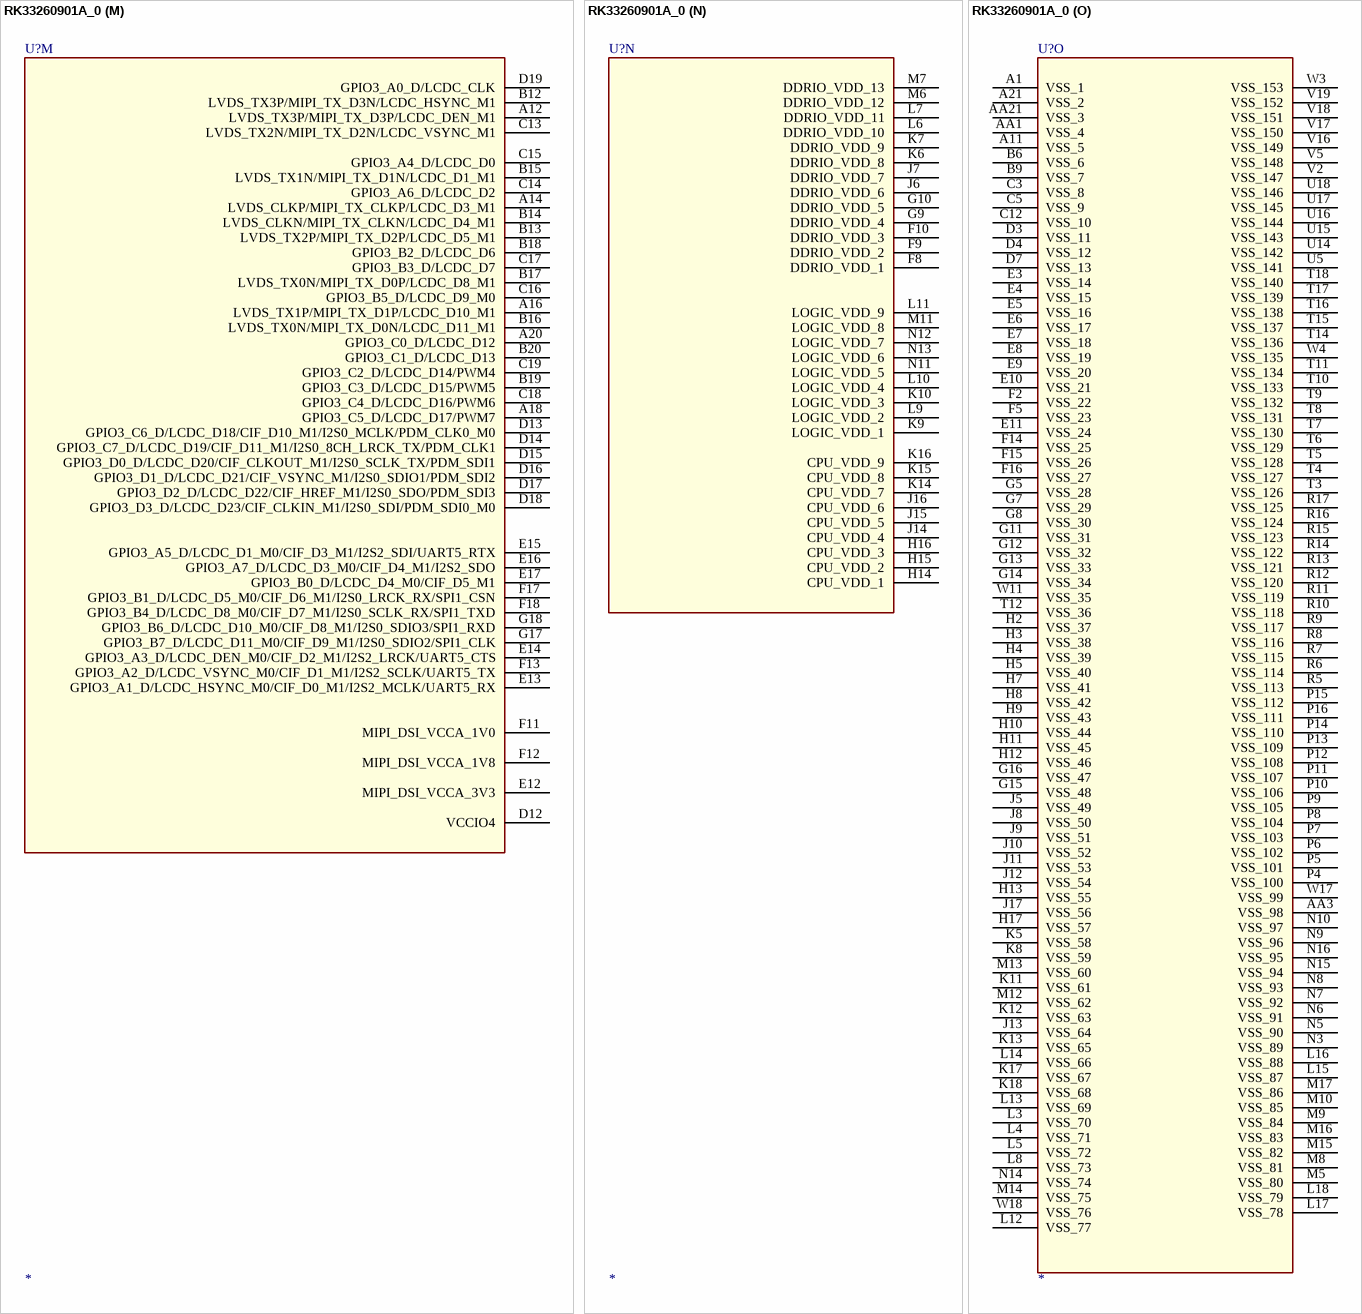
[diagram p301: symbol RK33260901A_0]

## RK33260901A_0
designator U?
SWAP_INFO: (S1+S2+S3+S4+S5+S6+S7+S8+S9+S10+S11+S12+S13+S14+S15); SPLIT_INST: TRUE
part A pins: A2 DDR3_RESETN/DDR4_RESETN, A3 DDR3_BA0/DDR4_BG0, A4 DDR3_A5/DDR4_A8, A5 DDR3_BA2/DDR4_BA0, A7 DDR3_A14/DDR4_A1, A8 DDR3_A4/DDR4_A5, A9 DDR3_A12/DDR4_BA1, A10 DDR3_A10/DDR4_CS0N, AA2 DDR_DQ8, B1 DDR3_CLKN/DDR4_CLKN, B2 DDR3_CLKP/DDR4_CLKP, B3 DDR3_CSN0/DDR4_ACTN, B4 DDR3_A7/DDR4_A11, B5 DDR3_A3/DDR4_A6, B7 DDR3_A11/DDR4_A3, B8 DDR3_A6/DDR4_A7, B10 DDR3_BA1/DDR4_CASN/DDR4_A15, B11 DDR3_CKE/DDR4_RASN/DDR4_A16, C2 DDR_DQ26, C4 DDR3_RASN/DDR4_CKE, C6 DDR3_A9/DDR4_A0, C7 DDR3_A0/DDR4_A10, C8 DDR3_WEN/DDR4_BG1, C9 DDR3_A15/DDR4_ODT0, C10 DDR3_A8/DDR4_A13, C11 DDR3_ODT1/DDR4_ODT1, D1 DDR_DQ30, D2 DDR_DQ27, D5 DDR3_ODT0/DDR4_WEN/DDR4_A14, D6 DDR3_A13/DDR4_A2, D8 DDR3_A2/DDR4_A4, D9 DDR3_CASN/DDR4_A12, D10 DDR3_A1/DDR4_A9, D11 DDR3_CSN1/DDR4_CS1N, E1 DDR_DQ31, E2 DDR_DQ22, F3 DDR_DQ18, F4 DDR_DQ16, G1 DDR_DQS3_N, G2 DDR_DQS3_P, G3 DDR_DQ17, G4 DDR_DM2, J1 DDR_DQS2_N, J2 DDR_DQS2_P, J3 DDR_DQ29, J4 DDR_DQ25, K2 DDR_DQ19, K3 DDR_DQ24, K4 DDR_DQ28, L1 DDR_DQ23, L2 DDR_DQ20, M1 DDR_DQ21, M2 DDR_DQ11, M3 DDR_DQ13, M4 DDR_DM3, N2 DDR_DQ4, N4 DDR_DQ15, P3 DDR_DQ9, R1 DDR_DQ1, R2 DDR_DQ6, R3 DDR_DQ5, R4 DDR_DQ0, T2 DDR_D_M0, U1 DDR_DQS1_N, U2 DDR_DQS1_P, U3 DDR_DQ2, U4 DDR_D_M1, V3 DDR_DQ14, V4 DDR_DQ12, W1 DDR_DQS0_N, W2 DDR_DQS0_P, Y1 DDR_DQ7, Y2 DDR_DQ3, Y3 DDR_DQ10
part B pins: AA4 GPIO2_B1_D/CIF_HREF_M0/RMII_MDC, AA5 GPIO2_A0_D/CIF_D2_M0/RMII_TXEN, AA6 GPIO2_B2_D/CIF_CLKI_M0/RMII_CLK, AA7 GPIO2_A2_D/CIF_D4_M0/RMII_TXD0, AA8 GPIO2_A1_D/CIF_D3_M0/RMII_TXD1, AA9 GPIO2_A4_D/CIF_D6_M0/RMII_RXD1, U6 VCCIO3, U7 GPIO2_B7_U/CIF_D10_M0/I2C2_SCL, V6 GPIO2_C0_U/CIF_D11_M0/I2C2_SDA, V7 GPIO2_B5_D/PWM2, W5 GPIO2_A6_D/CIF_D8_M0/RMII_RXDV, W6 GPIO2_B6_D/CIF_D1_M0/UART2_RX_M1, W7 GPIO2_A7_D/CIF_D9_M0/RMII_MDIO, Y4 GPIO2_B0_D/CIF_VSYNC_M0, Y5 GPIO2_B3_D/CIF_CLKO_M0/CLK_OUT_ETHERNET, Y6 GPIO2_A3_D/CIF_D5_M0/RMII_RXD0, Y7 GPIO2_A5_D/CIF_D7_M0/RMII_RXER, Y9 GPIO2_B4_D/CIF_D0_M0/UART2_TX_M1
part C pins: M18 PLL_AVDD_1V8, N17 AVSS, N18 PLL_AVDD_1V0, T13 OTP_VCC_1V8, U20 OSC_24M_IN, U21 OSC_24M_OUT, W19 TEST, W20 NPOR
part D pins: U8 MIPI_CSI_VCCA_1V0, U9 MIPI_CSI_DP2, U10 MIPI_CSI_DN1, U11 MIPI_CSI_RBIAS, V8 MIPI_CSI_DN2, V9 MIPI_CSI_CLKN, V10 MIPI_CSI_DP1, V11 MIPI_CSI_DN0, W8 MIPI_CSI_DP3, W9 MIPI_CSI_CLKP, W10 MIPI_CSI_DP0, Y8 MIPI_CSI_DN3
part E pins: AA10 USB_OTG_DM, AA11 USB_RBIAS, AA12 USB_HOST_DP, U12 USB_AVDD_1V0, V12 USB_AVDD_1V8, W12 USB_AVDD_3V3, Y10 USB_OTG_DP, Y11 USB_ID, Y12 USB_HOST_DM, Y13 USB_DET
part F pins: U13 ADC_AVDD_1V8, V13 ADC_IN2, W13 ADC_IN0, W14 ADC_IN1
part G pins: AA13 GPIO2_C5_D/I2S1_SDI, AA14 GPIO2_C2_D/I2S1_SCLK, AA15 GPIO2_C1_D/I2S1_LRCK, W15 GPIO2_C6_D/PDM_CLK0, W16 VCCIO5, Y14 GPIO2_C3_D/I2S1_MCLK, Y15 GPIO2_C4_D/I2S1_SDO
part H pins: AA16 GPIO1_D5_U/SDMMC0_D3/UART4_TX/JTAG_TMS, AA17 GPIO1_D7_U/SDMMC0_CMD/UART4_RTS, AA18 GPIO1_D2_U/SDMMC0_D0/UART2_TX_M0, AA19 GPIO1_D6_D/SDMMC0_CLKO/UART4_CTS/TEST_CLKO, Y16 GPIO1_D4_U/SDMMC0_D2/UART4_RX/JTAG_TCK, Y17 GPIO1_D3_U/SDMMC0_D1/UART2_RX_M0, Y18 VCCIO2
part I pins: AA20 GPIO0_A3_U/SDMMC0_DETN, P17 PMU_VDD_1V0, T21 GPIO0_A5_, U19 PMUIO1, V20 GPIO0_A4_/PMIC_SLEEP, V21 GPIO0_A2_, W21 GPIO0_A6_/TSADC_SHUT, Y19 GPIO0_A7_, Y20 GPIO0_A1_, Y21 GPIO0_A0_/REF_CLKO
part J pins: J19 GPIO0_B5_U/UART0_RTS/TEST_CLK1, M19 GPIO1_C3_U/UART1_RTS, N19 GPIO0_B4_U/UART0_CTS, N20 GPIO0_B2_D/UART0_TX, N21 GPIO0_C0_D/UART3_TX_M0/PWM1, P18 GPIO0_B7_D/PWM0/OTG_DRV, P20 GPIO0_C4_Z/CLKIO_32K, P21 GPIO0_B1_U/I2C0_SDA, R18 GPIO0_B3_D/UART0_RX, R19 GPIO0_C1_D/UART3_RX_M0/PWM3, R20 GPIO0_C3_U/I2C1_SDA/UART3_RTS_M0, R21 GPIO0_B0_U/I2C0_SCL, T19 PMUIO2, T20 GPIO0_C2_U/I2C1_SCL/UART3_CTS_M0
part K pins: H19 GPIO1_C4_U/SDMMC1_CMD, J20 GPIO1_D1_U/SDMMC1_D3, K19 VCCIO1, K20 GPIO1_C0_U/UART1_RX, K21 GPIO1_C6_U/SDMMC1_D0, L19 GPIO1_C2_U/UART1_CTS, L20 GPIO1_D0_U/SDMMC1_D2, L21 GPIO1_C7_U/SDMMC1_D1, M20 GPIO1_C5_D/SDMMC1_CLK, M21 GPIO1_C1_U/UART1_TX, P19 GPIO0_B6_U/FLASH_VOLSEL
part L pins: B21 GPIO1_A7_U/FLASH_D7/EMMC_D7, C20 GPIO1_A6_U/FLASH_D6/EMMC_D6, C21 GPIO1_A2_U/FLASH_D2/EMMC_D2/SFC_SIO2, D20 GPIO1_A5_U/FLASH_D5/EMMC_D5, D21 GPIO1_A1_U/FLASH_D1/EMMC_D1/SFC_SIO1, E18 GPIO1_B3_D/FLASH_ALE/EMMC_RSTN, E19 GPIO1_A3_U/FLASH_D3/EMMC_D3/SFC_SIO3, E20 GPIO1_A0_U/FLASH_D0/EMMC_D0/SFC_SIO0, E21 GPIO1_A4_U/FLASH_D4/EMMC_D4/SFC_CSN0, F19 GPIO1_B0_U/FLASH_CS0/EMMC_PWREN, G19 GPIO1_B2_U/FLASH_DQS/EMMC_CMD, G20 GPIO1_B6_U/FLASH_RDY/EMMC_CLKOUT/SFC_CLK, G21 GPIO1_B4_D/FLASH_CLE/UART3_CTS_M1/SPI0_TXD/I2C3_SDA, H18 GPIO1_B1_U/FLASH_CS1/UART3_TX_M1/SPI0_CSN, H20 GPIO1_B5_U/FLASH_WRN/UART3_RTS_M1/SPI0_RXD/I2C3_SCL, H21 GPIO1_B7_U/FLASH_RDN/UART3_RX_M1/SPI0_CLK, J18 VCCIO6
part M pins: A12 LVDS_TX3P/MIPI_TX_D3P/LCDC_DEN_M1, A14 LVDS_CLKP/MIPI_TX_CLKP/LCDC_D3_M1, A16 LVDS_TX1P/MIPI_TX_D1P/LCDC_D10_M1, A18 GPIO3_C5_D/LCDC_D17/PWM7, A20 GPIO3_C0_D/LCDC_D12, B12 LVDS_TX3P/MIPI_TX_D3N/LCDC_HSYNC_M1, B13 LVDS_TX2P/MIPI_TX_D2P/LCDC_D5_M1, B14 LVDS_CLKN/MIPI_TX_CLKN/LCDC_D4_M1, B15 LVDS_TX1N/MIPI_TX_D1N/LCDC_D1_M1, B16 LVDS_TX0N/MIPI_TX_D0N/LCDC_D11_M1, B17 LVDS_TX0N/MIPI_TX_D0P/LCDC_D8_M1, B18 GPIO3_B2_D/LCDC_D6, B19 GPIO3_C3_D/LCDC_D15/PWM5, B20 GPIO3_C1_D/LCDC_D13, C13 LVDS_TX2N/MIPI_TX_D2N/LCDC_VSYNC_M1, C14 GPIO3_A6_D/LCDC_D2, C15 GPIO3_A4_D/LCDC_D0, C16 GPIO3_B5_D/LCDC_D9_M0, C17 GPIO3_B3_D/LCDC_D7, C18 GPIO3_C4_D/LCDC_D16/PWM6, C19 GPIO3_C2_D/LCDC_D14/PWM4, D12 VCCIO4, D13 GPIO3_C6_D/LCDC_D18/CIF_D10_M1/I2S0_MCLK/PDM_CLK0_M0, D14 GPIO3_C7_D/LCDC_D19/CIF_D11_M1/I2S0_8CH_LRCK_TX/PDM_CLK1, D15 GPIO3_D0_D/LCDC_D20/CIF_CLKOUT_M1/I2S0_SCLK_TX/PDM_SDI1, D16 GPIO3_D1_D/LCDC_D21/CIF_VSYNC_M1/I2S0_SDIO1/PDM_SDI2, D17 GPIO3_D2_D/LCDC_D22/CIF_HREF_M1/I2S0_SDO/PDM_SDI3, D18 GPIO3_D3_D/LCDC_D23/CIF_CLKIN_M1/I2S0_SDI/PDM_SDI0_M0, D19 GPIO3_A0_D/LCDC_CLK, E12 MIPI_DSI_VCCA_3V3, E13 GPIO3_A1_D/LCDC_HSYNC_M0/CIF_D0_M1/I2S2_MCLK/UART5_RX, E14 GPIO3_A3_D/LCDC_DEN_M0/CIF_D2_M1/I2S2_LRCK/UART5_CTS, E15 GPIO3_A5_D/LCDC_D1_M0/CIF_D3_M1/I2S2_SDI/UART5_RTX, E16 GPIO3_A7_D/LCDC_D3_M0/CIF_D4_M1/I2S2_SDO, E17 GPIO3_B0_D/LCDC_D4_M0/CIF_D5_M1, F11 MIPI_DSI_VCCA_1V0, F12 MIPI_DSI_VCCA_1V8, F13 GPIO3_A2_D/LCDC_VSYNC_M0/CIF_D1_M1/I2S2_SCLK/UART5_TX, F17 GPIO3_B1_D/LCDC_D5_M0/CIF_D6_M1/I2S0_LRCK_RX/SPI1_CSN, F18 GPIO3_B4_D/LCDC_D8_M0/CIF_D7_M1/I2S0_SCLK_RX/SPI1_TXD, G17 GPIO3_B7_D/LCDC_D11_M0/CIF_D9_M1/I2S0_SDIO2/SPI1_CLK, G18 GPIO3_B6_D/LCDC_D10_M0/CIF_D8_M1/I2S0_SDIO3/SPI1_RXD
part N pins: F8 DDRIO_VDD_1, F9 DDRIO_VDD_2, F10 DDRIO_VDD_3, G9 DDRIO_VDD_4, G10 DDRIO_VDD_5, H14 CPU_VDD_1, H15 CPU_VDD_2, H16 CPU_VDD_3, J6 DDRIO_VDD_6, J7 DDRIO_VDD_7, J14 CPU_VDD_4, J15 CPU_VDD_5, J16 CPU_VDD_6, K6 DDRIO_VDD_8, K7 DDRIO_VDD_9, K9 LOGIC_VDD_1, K10 LOGIC_VDD_3, K14 CPU_VDD_7, K15 CPU_VDD_8, K16 CPU_VDD_9, L6 DDRIO_VDD_10, L7 DDRIO_VDD_11, L9 LOGIC_VDD_2, L10 LOGIC_VDD_4, L11 LOGIC_VDD_9, M6 DDRIO_VDD_12, M7 DDRIO_VDD_13, M11 LOGIC_VDD_8, N11 LOGIC_VDD_5, N12 LOGIC_VDD_7, N13 LOGIC_VDD_6
part O pins: A1 VSS_1, A11 VSS_5, A21 VSS_2, AA1 VSS_4, AA3 VSS_98, AA21 VSS_3, B6 VSS_6, B9 VSS_7, C3 VSS_8, C5 VSS_9, C12 VSS_10, D3 VSS_11, D4 VSS_12, D7 VSS_13, E3 VSS_14, E4 VSS_15, E5 VSS_16, E6 VSS_17, E7 VSS_18, E8 VSS_19, E9 VSS_20, E10 VSS_21, E11 VSS_24, F2 VSS_22, F5 VSS_23, F14 VSS_25, F15 VSS_26, F16 VSS_27, G5 VSS_28, G7 VSS_29, G8 VSS_30, G11 VSS_31, G12 VSS_32, G13 VSS_33, G14 VSS_34, G15 VSS_48, G16 VSS_47, H2 VSS_37, H3 VSS_38, H4 VSS_39, H5 VSS_40, H7 VSS_41, H8 VSS_42, H9 VSS_43, H10 VSS_44, H11 VSS_45, H12 VSS_46, H13 VSS_55, H17 VSS_57, J5 VSS_49, J8 VSS_50, J9 VSS_51, J10 VSS_52, J11 VSS_53, J12 VSS_54, J13 VSS_64, J17 VSS_56, K5 VSS_58, K8 VSS_59, K11 VSS_61, K12 VSS_63, K13 VSS_65, K17 VSS_67, K18 VSS_68, L3 VSS_70, L4 VSS_71, L5 VSS_72, L8 VSS_73, L12 VSS_77, L13 VSS_69, L14 VSS_66, L15 VSS_87, L16 VSS_88, L17 VSS_78, L18 VSS_79, M5 VSS_80, M8 VSS_81, M9 VSS_84, M10 VSS_85, M12 VSS_62, M13 VSS_60, M14 VSS_75, M15 VSS_82, M16 VSS_83, M17 VSS_86, N3 VSS_89, N5 VSS_90, N6 VSS_91, N7 VSS_92, N8 VSS_93, N9 VSS_96, N10 VSS_97, N14 VSS_74, N15 VSS_94, N16 VSS_95, P4 VSS_100, P5 VSS_101, P6 VSS_102, P7 VSS_103, P8 VSS_104, P9 VSS_105, P10 VSS_106, P11 VSS_107, P12 VSS_108, P13 VSS_109, P14 VSS_110, P15 VSS_112, P16 VSS_111, R5 VSS_113, R6 VSS_114, R7 VSS_115, R8 VSS_116, R9 VSS_117, R10 VSS_118, R11 VSS_119, R12 VSS_120, R13 VSS_121, R14 VSS_122, R15 VSS_123, R16 VSS_124, R17 VSS_125, T3 VSS_126, T4 VSS_127, T5 VSS_128, T6 VSS_129, T7 VSS_130, T8 VSS_131, T9 VSS_132, T10 VSS_133, T11 VSS_134, T12 VSS_36, T14 VSS_136, T15 VSS_137, T16 VSS_138, T17 VSS_139, T18 VSS_140, U5 VSS_141, U14 VSS_142, U15 VSS_143, U16 VSS_144, U17 VSS_145, U18 VSS_146, V2 VSS_147, V5 VSS_148, V16 VSS_149, V17 VSS_150, V18 VSS_151, V19 VSS_152, W3 VSS_153, W4 VSS_135, W11 VSS_35, W17 VSS_99, W18 VSS_76

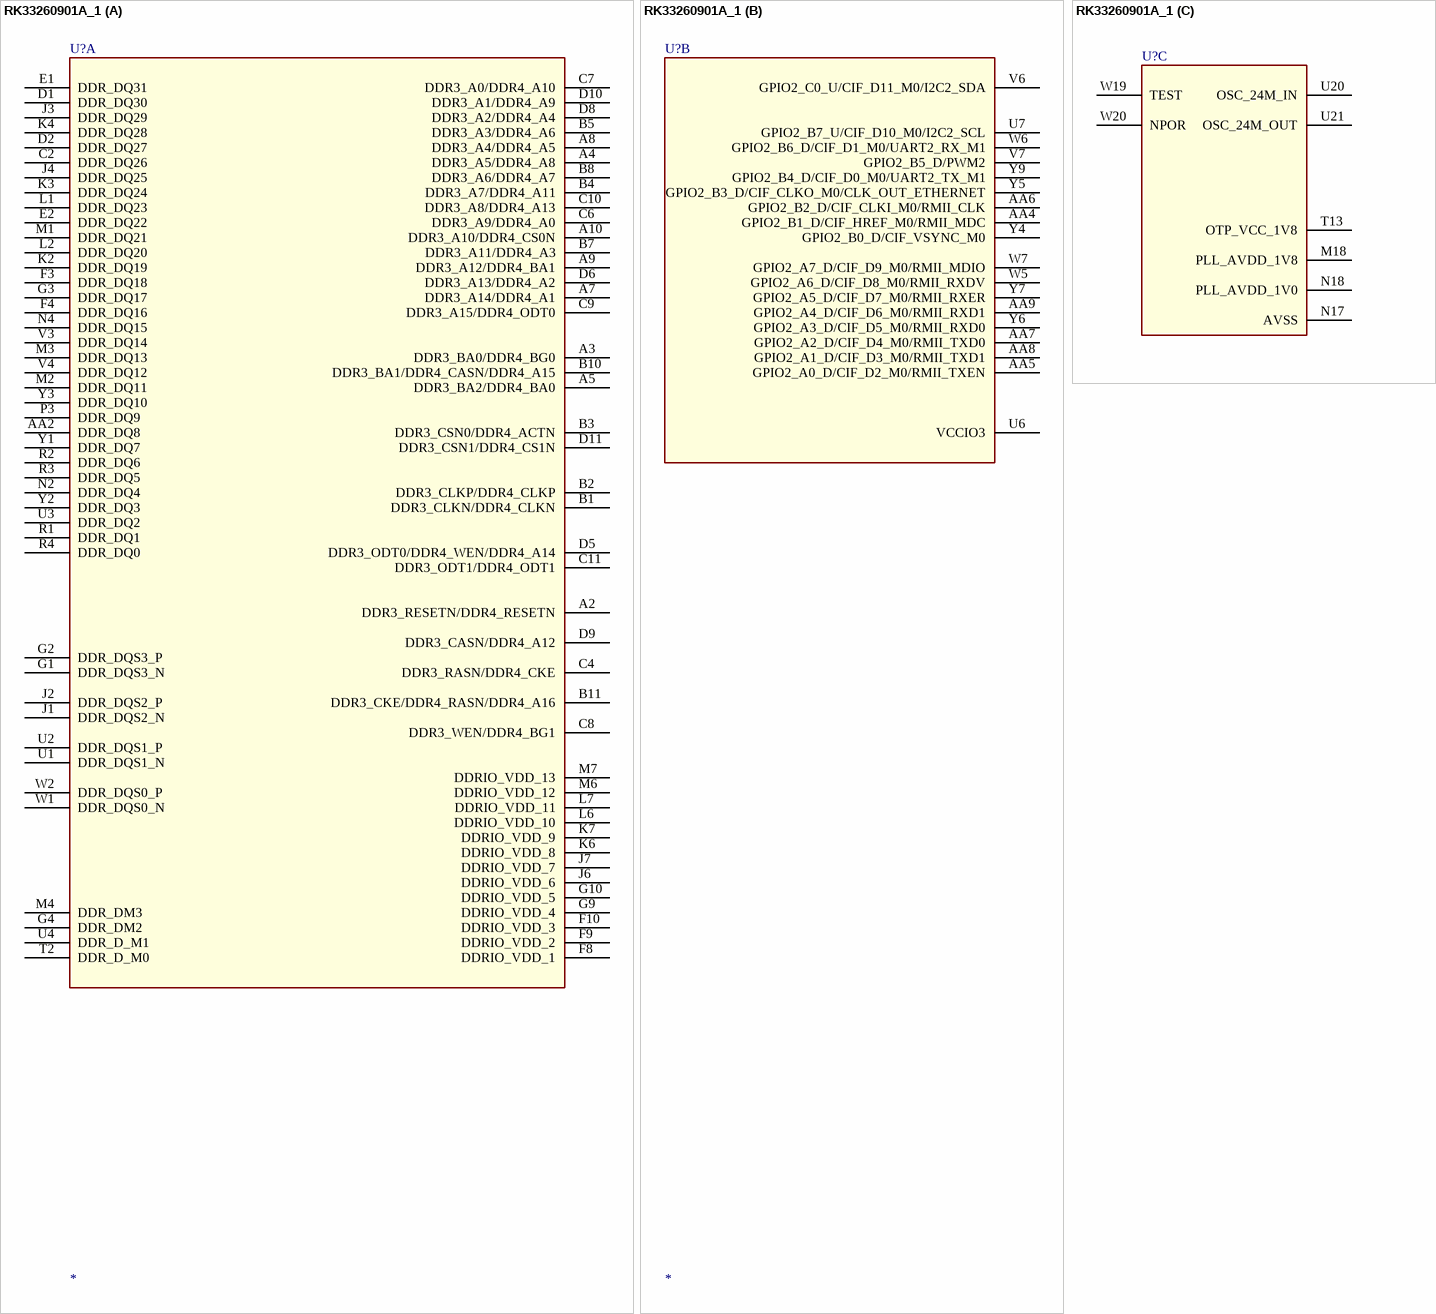
[diagram p302: symbol RK33260901A_1]

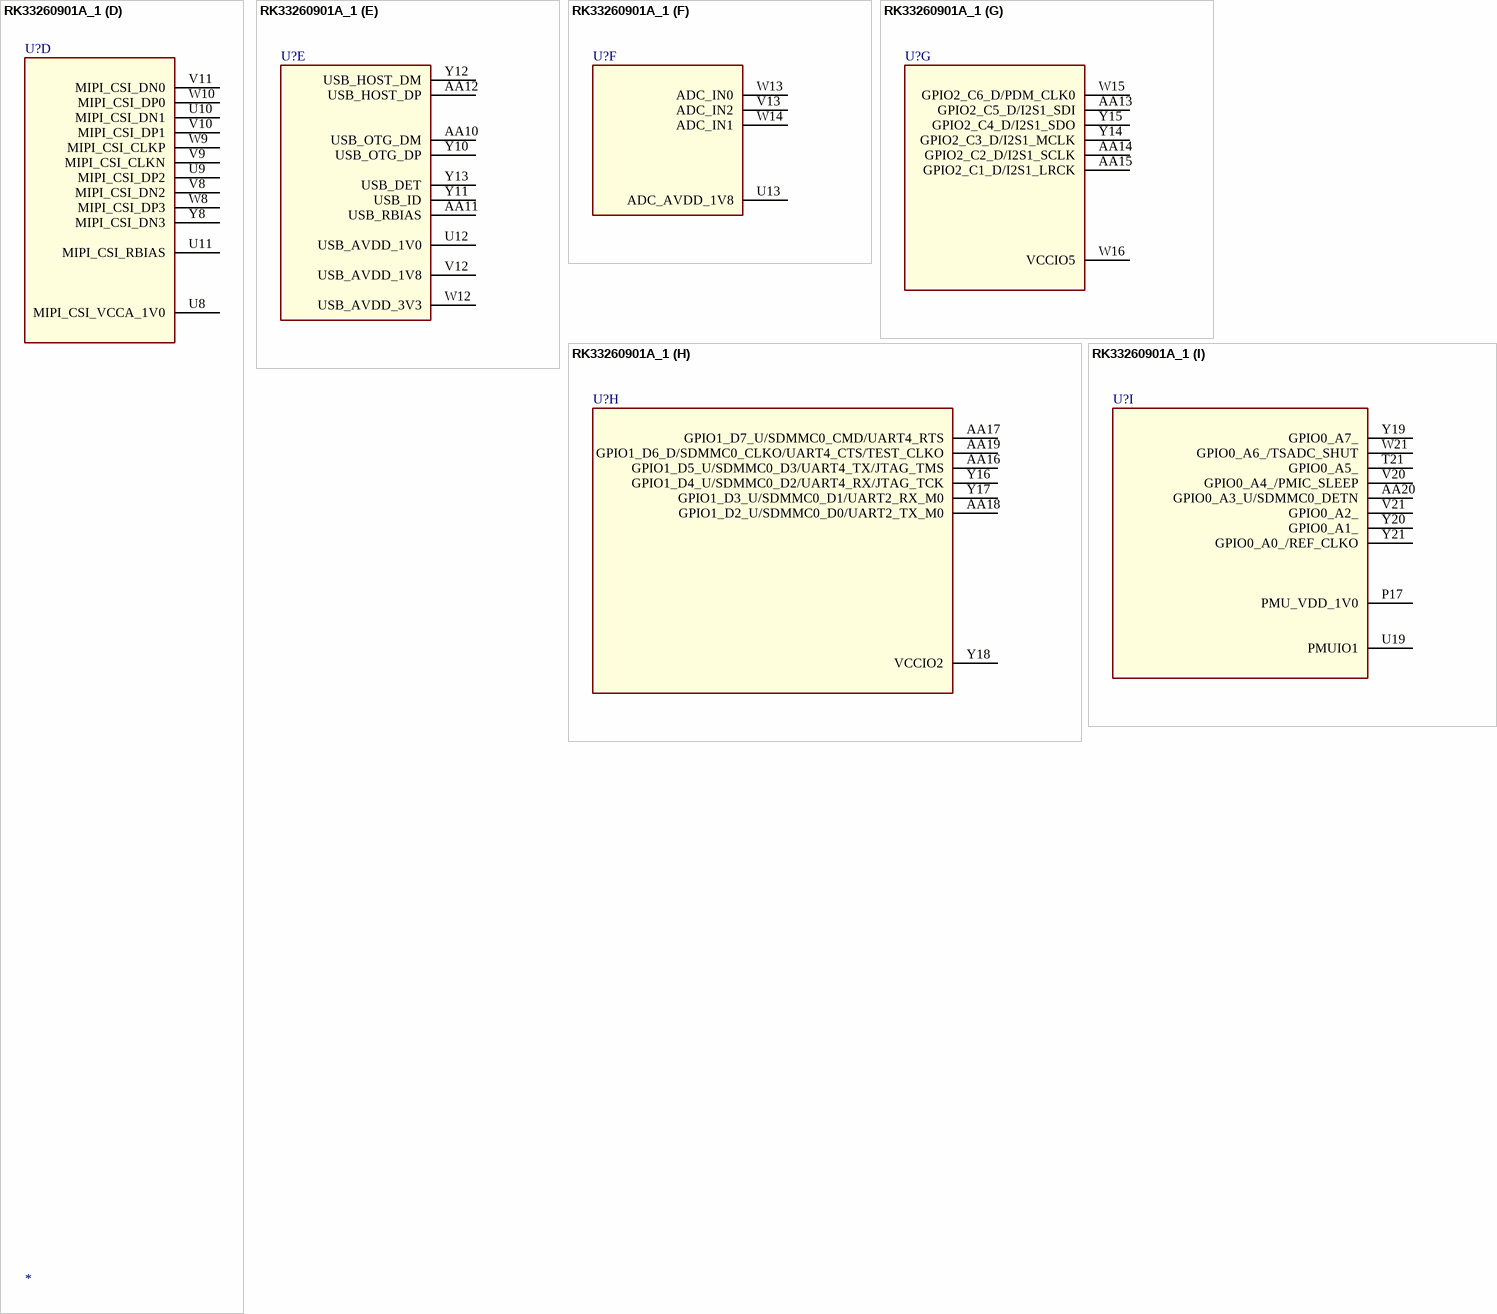
[diagram p303: symbol RK33260901A_1]

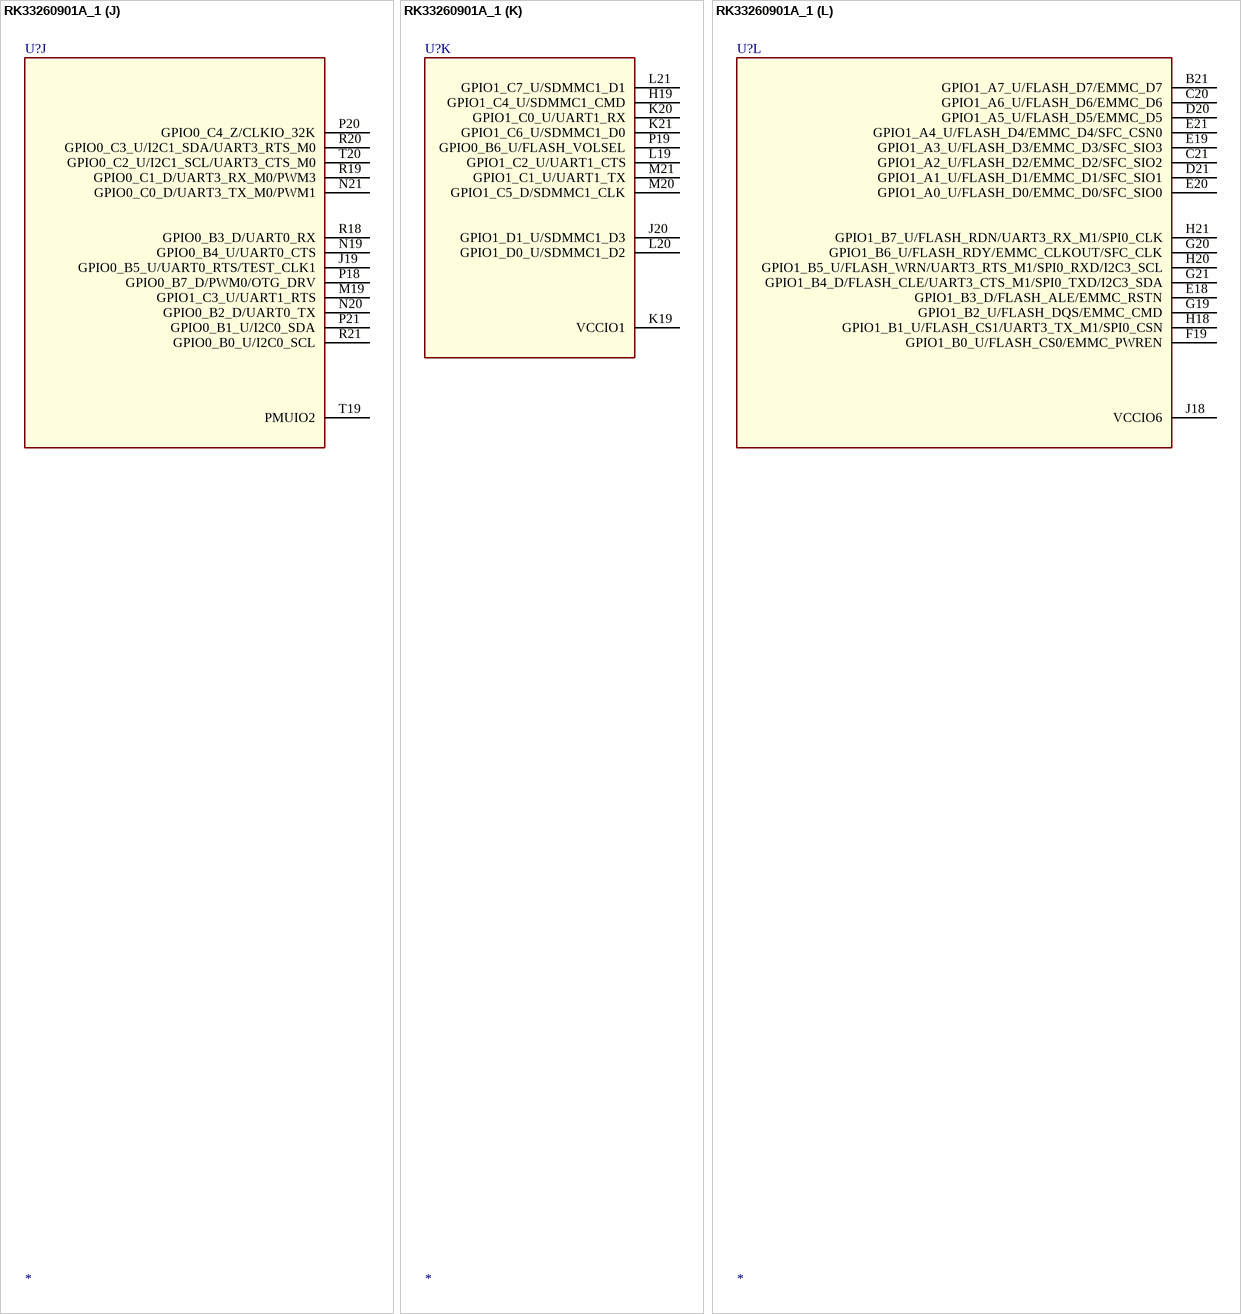
[diagram p304: symbol RK33260901A_1]

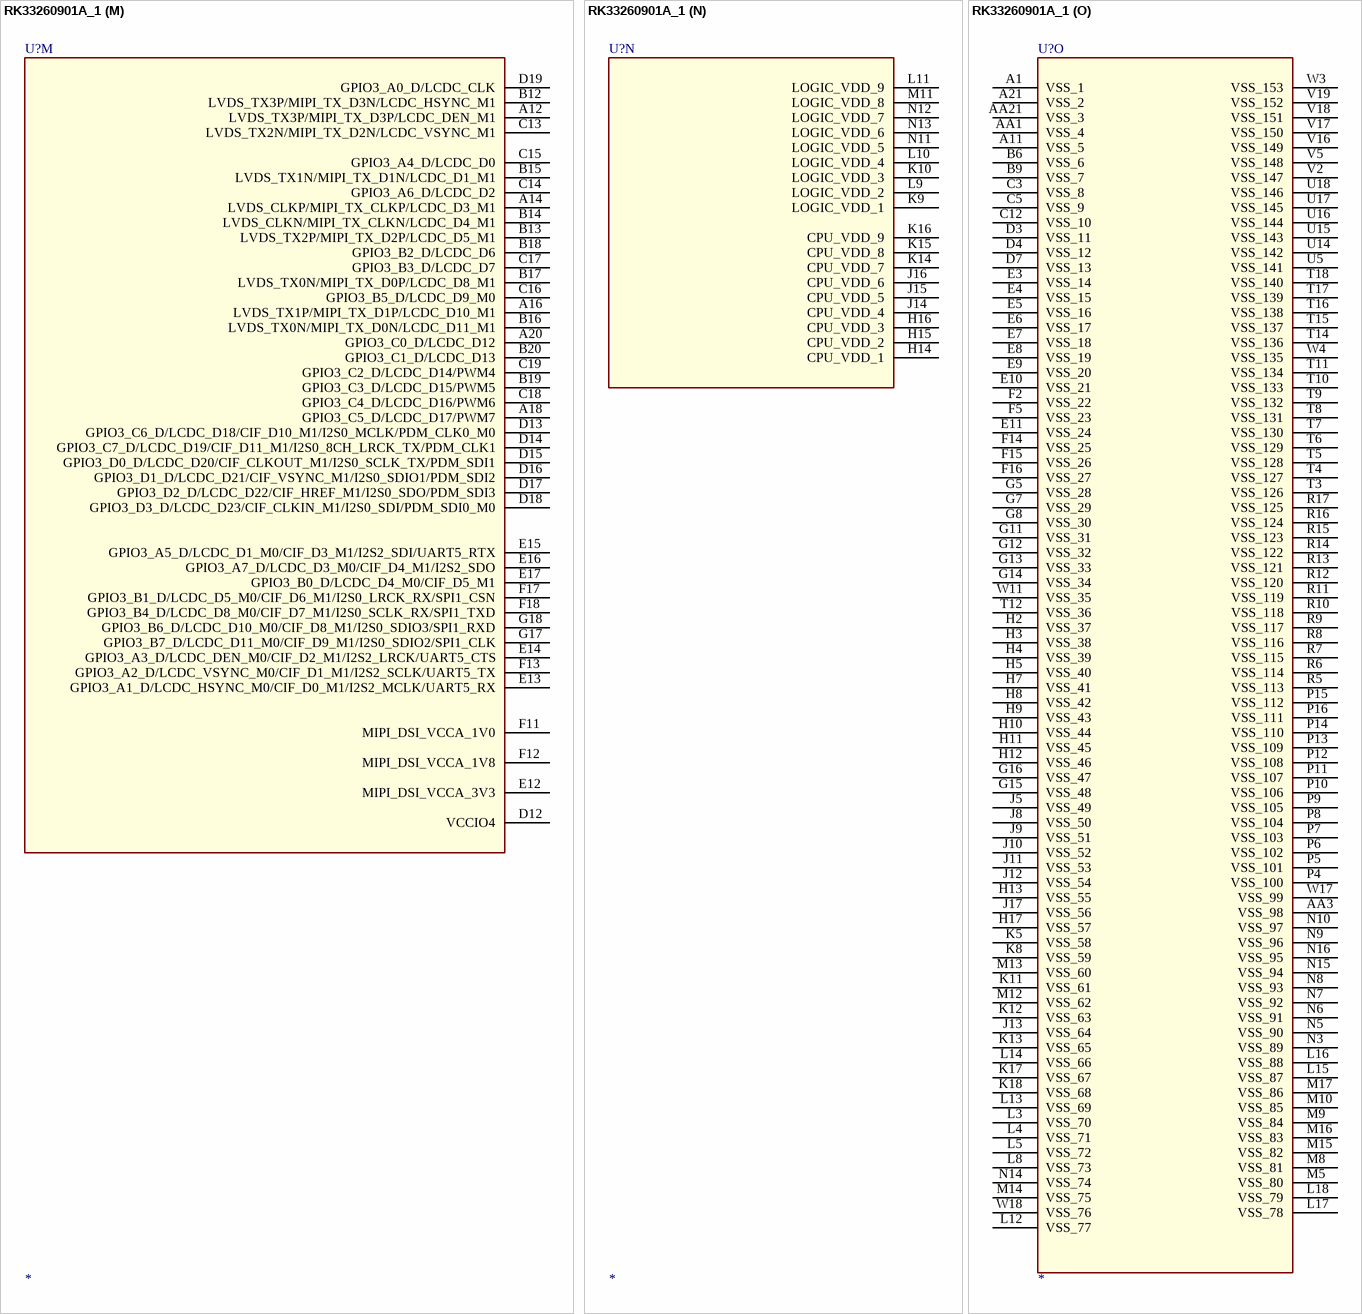
[diagram p305: symbol RK33260901A_1]

## RK33260901A_1
designator U?
SPLIT_INST: TRUE; SWAP_INFO: (S1+S2+S3+S4+S5+S6+S7+S8+S9+S10+S11+S12+S13+S14+S15)
part A pins: A2 DDR3_RESETN/DDR4_RESETN, A3 DDR3_BA0/DDR4_BG0, A4 DDR3_A5/DDR4_A8, A5 DDR3_BA2/DDR4_BA0, A7 DDR3_A14/DDR4_A1, A8 DDR3_A4/DDR4_A5, A9 DDR3_A12/DDR4_BA1, A10 DDR3_A10/DDR4_CS0N, AA2 DDR_DQ8, B1 DDR3_CLKN/DDR4_CLKN, B2 DDR3_CLKP/DDR4_CLKP, B3 DDR3_CSN0/DDR4_ACTN, B4 DDR3_A7/DDR4_A11, B5 DDR3_A3/DDR4_A6, B7 DDR3_A11/DDR4_A3, B8 DDR3_A6/DDR4_A7, B10 DDR3_BA1/DDR4_CASN/DDR4_A15, B11 DDR3_CKE/DDR4_RASN/DDR4_A16, C2 DDR_DQ26, C4 DDR3_RASN/DDR4_CKE, C6 DDR3_A9/DDR4_A0, C7 DDR3_A0/DDR4_A10, C8 DDR3_WEN/DDR4_BG1, C9 DDR3_A15/DDR4_ODT0, C10 DDR3_A8/DDR4_A13, C11 DDR3_ODT1/DDR4_ODT1, D1 DDR_DQ30, D2 DDR_DQ27, D5 DDR3_ODT0/DDR4_WEN/DDR4_A14, D6 DDR3_A13/DDR4_A2, D8 DDR3_A2/DDR4_A4, D9 DDR3_CASN/DDR4_A12, D10 DDR3_A1/DDR4_A9, D11 DDR3_CSN1/DDR4_CS1N, E1 DDR_DQ31, E2 DDR_DQ22, F3 DDR_DQ18, F4 DDR_DQ16, F8 DDRIO_VDD_1, F9 DDRIO_VDD_2, F10 DDRIO_VDD_3, G1 DDR_DQS3_N, G2 DDR_DQS3_P, G3 DDR_DQ17, G4 DDR_DM2, G9 DDRIO_VDD_4, G10 DDRIO_VDD_5, J1 DDR_DQS2_N, J2 DDR_DQS2_P, J3 DDR_DQ29, J4 DDR_DQ25, J6 DDRIO_VDD_6, J7 DDRIO_VDD_7, K2 DDR_DQ19, K3 DDR_DQ24, K4 DDR_DQ28, K6 DDRIO_VDD_8, K7 DDRIO_VDD_9, L1 DDR_DQ23, L2 DDR_DQ20, L6 DDRIO_VDD_10, L7 DDRIO_VDD_11, M1 DDR_DQ21, M2 DDR_DQ11, M3 DDR_DQ13, M4 DDR_DM3, M6 DDRIO_VDD_12, M7 DDRIO_VDD_13, N2 DDR_DQ4, N4 DDR_DQ15, P3 DDR_DQ9, R1 DDR_DQ1, R2 DDR_DQ6, R3 DDR_DQ5, R4 DDR_DQ0, T2 DDR_D_M0, U1 DDR_DQS1_N, U2 DDR_DQS1_P, U3 DDR_DQ2, U4 DDR_D_M1, V3 DDR_DQ14, V4 DDR_DQ12, W1 DDR_DQS0_N, W2 DDR_DQS0_P, Y1 DDR_DQ7, Y2 DDR_DQ3, Y3 DDR_DQ10
part B pins: AA4 GPIO2_B1_D/CIF_HREF_M0/RMII_MDC, AA5 GPIO2_A0_D/CIF_D2_M0/RMII_TXEN, AA6 GPIO2_B2_D/CIF_CLKI_M0/RMII_CLK, AA7 GPIO2_A2_D/CIF_D4_M0/RMII_TXD0, AA8 GPIO2_A1_D/CIF_D3_M0/RMII_TXD1, AA9 GPIO2_A4_D/CIF_D6_M0/RMII_RXD1, U6 VCCIO3, U7 GPIO2_B7_U/CIF_D10_M0/I2C2_SCL, V6 GPIO2_C0_U/CIF_D11_M0/I2C2_SDA, V7 GPIO2_B5_D/PWM2, W5 GPIO2_A6_D/CIF_D8_M0/RMII_RXDV, W6 GPIO2_B6_D/CIF_D1_M0/UART2_RX_M1, W7 GPIO2_A7_D/CIF_D9_M0/RMII_MDIO, Y4 GPIO2_B0_D/CIF_VSYNC_M0, Y5 GPIO2_B3_D/CIF_CLKO_M0/CLK_OUT_ETHERNET, Y6 GPIO2_A3_D/CIF_D5_M0/RMII_RXD0, Y7 GPIO2_A5_D/CIF_D7_M0/RMII_RXER, Y9 GPIO2_B4_D/CIF_D0_M0/UART2_TX_M1
part C pins: M18 PLL_AVDD_1V8, N17 AVSS, N18 PLL_AVDD_1V0, T13 OTP_VCC_1V8, U20 OSC_24M_IN, U21 OSC_24M_OUT, W19 TEST, W20 NPOR
part D pins: U8 MIPI_CSI_VCCA_1V0, U9 MIPI_CSI_DP2, U10 MIPI_CSI_DN1, U11 MIPI_CSI_RBIAS, V8 MIPI_CSI_DN2, V9 MIPI_CSI_CLKN, V10 MIPI_CSI_DP1, V11 MIPI_CSI_DN0, W8 MIPI_CSI_DP3, W9 MIPI_CSI_CLKP, W10 MIPI_CSI_DP0, Y8 MIPI_CSI_DN3
part E pins: AA10 USB_OTG_DM, AA11 USB_RBIAS, AA12 USB_HOST_DP, U12 USB_AVDD_1V0, V12 USB_AVDD_1V8, W12 USB_AVDD_3V3, Y10 USB_OTG_DP, Y11 USB_ID, Y12 USB_HOST_DM, Y13 USB_DET
part F pins: U13 ADC_AVDD_1V8, V13 ADC_IN2, W13 ADC_IN0, W14 ADC_IN1
part G pins: AA13 GPIO2_C5_D/I2S1_SDI, AA14 GPIO2_C2_D/I2S1_SCLK, AA15 GPIO2_C1_D/I2S1_LRCK, W15 GPIO2_C6_D/PDM_CLK0, W16 VCCIO5, Y14 GPIO2_C3_D/I2S1_MCLK, Y15 GPIO2_C4_D/I2S1_SDO
part H pins: AA16 GPIO1_D5_U/SDMMC0_D3/UART4_TX/JTAG_TMS, AA17 GPIO1_D7_U/SDMMC0_CMD/UART4_RTS, AA18 GPIO1_D2_U/SDMMC0_D0/UART2_TX_M0, AA19 GPIO1_D6_D/SDMMC0_CLKO/UART4_CTS/TEST_CLKO, Y16 GPIO1_D4_U/SDMMC0_D2/UART4_RX/JTAG_TCK, Y17 GPIO1_D3_U/SDMMC0_D1/UART2_RX_M0, Y18 VCCIO2
part I pins: AA20 GPIO0_A3_U/SDMMC0_DETN, P17 PMU_VDD_1V0, T21 GPIO0_A5_, U19 PMUIO1, V20 GPIO0_A4_/PMIC_SLEEP, V21 GPIO0_A2_, W21 GPIO0_A6_/TSADC_SHUT, Y19 GPIO0_A7_, Y20 GPIO0_A1_, Y21 GPIO0_A0_/REF_CLKO
part J pins: J19 GPIO0_B5_U/UART0_RTS/TEST_CLK1, M19 GPIO1_C3_U/UART1_RTS, N19 GPIO0_B4_U/UART0_CTS, N20 GPIO0_B2_D/UART0_TX, N21 GPIO0_C0_D/UART3_TX_M0/PWM1, P18 GPIO0_B7_D/PWM0/OTG_DRV, P20 GPIO0_C4_Z/CLKIO_32K, P21 GPIO0_B1_U/I2C0_SDA, R18 GPIO0_B3_D/UART0_RX, R19 GPIO0_C1_D/UART3_RX_M0/PWM3, R20 GPIO0_C3_U/I2C1_SDA/UART3_RTS_M0, R21 GPIO0_B0_U/I2C0_SCL, T19 PMUIO2, T20 GPIO0_C2_U/I2C1_SCL/UART3_CTS_M0
part K pins: H19 GPIO1_C4_U/SDMMC1_CMD, J20 GPIO1_D1_U/SDMMC1_D3, K19 VCCIO1, K20 GPIO1_C0_U/UART1_RX, K21 GPIO1_C6_U/SDMMC1_D0, L19 GPIO1_C2_U/UART1_CTS, L20 GPIO1_D0_U/SDMMC1_D2, L21 GPIO1_C7_U/SDMMC1_D1, M20 GPIO1_C5_D/SDMMC1_CLK, M21 GPIO1_C1_U/UART1_TX, P19 GPIO0_B6_U/FLASH_VOLSEL
part L pins: B21 GPIO1_A7_U/FLASH_D7/EMMC_D7, C20 GPIO1_A6_U/FLASH_D6/EMMC_D6, C21 GPIO1_A2_U/FLASH_D2/EMMC_D2/SFC_SIO2, D20 GPIO1_A5_U/FLASH_D5/EMMC_D5, D21 GPIO1_A1_U/FLASH_D1/EMMC_D1/SFC_SIO1, E18 GPIO1_B3_D/FLASH_ALE/EMMC_RSTN, E19 GPIO1_A3_U/FLASH_D3/EMMC_D3/SFC_SIO3, E20 GPIO1_A0_U/FLASH_D0/EMMC_D0/SFC_SIO0, E21 GPIO1_A4_U/FLASH_D4/EMMC_D4/SFC_CSN0, F19 GPIO1_B0_U/FLASH_CS0/EMMC_PWREN, G19 GPIO1_B2_U/FLASH_DQS/EMMC_CMD, G20 GPIO1_B6_U/FLASH_RDY/EMMC_CLKOUT/SFC_CLK, G21 GPIO1_B4_D/FLASH_CLE/UART3_CTS_M1/SPI0_TXD/I2C3_SDA, H18 GPIO1_B1_U/FLASH_CS1/UART3_TX_M1/SPI0_CSN, H20 GPIO1_B5_U/FLASH_WRN/UART3_RTS_M1/SPI0_RXD/I2C3_SCL, H21 GPIO1_B7_U/FLASH_RDN/UART3_RX_M1/SPI0_CLK, J18 VCCIO6
part M pins: A12 LVDS_TX3P/MIPI_TX_D3P/LCDC_DEN_M1, A14 LVDS_CLKP/MIPI_TX_CLKP/LCDC_D3_M1, A16 LVDS_TX1P/MIPI_TX_D1P/LCDC_D10_M1, A18 GPIO3_C5_D/LCDC_D17/PWM7, A20 GPIO3_C0_D/LCDC_D12, B12 LVDS_TX3P/MIPI_TX_D3N/LCDC_HSYNC_M1, B13 LVDS_TX2P/MIPI_TX_D2P/LCDC_D5_M1, B14 LVDS_CLKN/MIPI_TX_CLKN/LCDC_D4_M1, B15 LVDS_TX1N/MIPI_TX_D1N/LCDC_D1_M1, B16 LVDS_TX0N/MIPI_TX_D0N/LCDC_D11_M1, B17 LVDS_TX0N/MIPI_TX_D0P/LCDC_D8_M1, B18 GPIO3_B2_D/LCDC_D6, B19 GPIO3_C3_D/LCDC_D15/PWM5, B20 GPIO3_C1_D/LCDC_D13, C13 LVDS_TX2N/MIPI_TX_D2N/LCDC_VSYNC_M1, C14 GPIO3_A6_D/LCDC_D2, C15 GPIO3_A4_D/LCDC_D0, C16 GPIO3_B5_D/LCDC_D9_M0, C17 GPIO3_B3_D/LCDC_D7, C18 GPIO3_C4_D/LCDC_D16/PWM6, C19 GPIO3_C2_D/LCDC_D14/PWM4, D12 VCCIO4, D13 GPIO3_C6_D/LCDC_D18/CIF_D10_M1/I2S0_MCLK/PDM_CLK0_M0, D14 GPIO3_C7_D/LCDC_D19/CIF_D11_M1/I2S0_8CH_LRCK_TX/PDM_CLK1, D15 GPIO3_D0_D/LCDC_D20/CIF_CLKOUT_M1/I2S0_SCLK_TX/PDM_SDI1, D16 GPIO3_D1_D/LCDC_D21/CIF_VSYNC_M1/I2S0_SDIO1/PDM_SDI2, D17 GPIO3_D2_D/LCDC_D22/CIF_HREF_M1/I2S0_SDO/PDM_SDI3, D18 GPIO3_D3_D/LCDC_D23/CIF_CLKIN_M1/I2S0_SDI/PDM_SDI0_M0, D19 GPIO3_A0_D/LCDC_CLK, E12 MIPI_DSI_VCCA_3V3, E13 GPIO3_A1_D/LCDC_HSYNC_M0/CIF_D0_M1/I2S2_MCLK/UART5_RX, E14 GPIO3_A3_D/LCDC_DEN_M0/CIF_D2_M1/I2S2_LRCK/UART5_CTS, E15 GPIO3_A5_D/LCDC_D1_M0/CIF_D3_M1/I2S2_SDI/UART5_RTX, E16 GPIO3_A7_D/LCDC_D3_M0/CIF_D4_M1/I2S2_SDO, E17 GPIO3_B0_D/LCDC_D4_M0/CIF_D5_M1, F11 MIPI_DSI_VCCA_1V0, F12 MIPI_DSI_VCCA_1V8, F13 GPIO3_A2_D/LCDC_VSYNC_M0/CIF_D1_M1/I2S2_SCLK/UART5_TX, F17 GPIO3_B1_D/LCDC_D5_M0/CIF_D6_M1/I2S0_LRCK_RX/SPI1_CSN, F18 GPIO3_B4_D/LCDC_D8_M0/CIF_D7_M1/I2S0_SCLK_RX/SPI1_TXD, G17 GPIO3_B7_D/LCDC_D11_M0/CIF_D9_M1/I2S0_SDIO2/SPI1_CLK, G18 GPIO3_B6_D/LCDC_D10_M0/CIF_D8_M1/I2S0_SDIO3/SPI1_RXD
part N pins: H14 CPU_VDD_1, H15 CPU_VDD_2, H16 CPU_VDD_3, J14 CPU_VDD_4, J15 CPU_VDD_5, J16 CPU_VDD_6, K9 LOGIC_VDD_1, K10 LOGIC_VDD_3, K14 CPU_VDD_7, K15 CPU_VDD_8, K16 CPU_VDD_9, L9 LOGIC_VDD_2, L10 LOGIC_VDD_4, L11 LOGIC_VDD_9, M11 LOGIC_VDD_8, N11 LOGIC_VDD_5, N12 LOGIC_VDD_7, N13 LOGIC_VDD_6
part O pins: A1 VSS_1, A11 VSS_5, A21 VSS_2, AA1 VSS_4, AA3 VSS_98, AA21 VSS_3, B6 VSS_6, B9 VSS_7, C3 VSS_8, C5 VSS_9, C12 VSS_10, D3 VSS_11, D4 VSS_12, D7 VSS_13, E3 VSS_14, E4 VSS_15, E5 VSS_16, E6 VSS_17, E7 VSS_18, E8 VSS_19, E9 VSS_20, E10 VSS_21, E11 VSS_24, F2 VSS_22, F5 VSS_23, F14 VSS_25, F15 VSS_26, F16 VSS_27, G5 VSS_28, G7 VSS_29, G8 VSS_30, G11 VSS_31, G12 VSS_32, G13 VSS_33, G14 VSS_34, G15 VSS_48, G16 VSS_47, H2 VSS_37, H3 VSS_38, H4 VSS_39, H5 VSS_40, H7 VSS_41, H8 VSS_42, H9 VSS_43, H10 VSS_44, H11 VSS_45, H12 VSS_46, H13 VSS_55, H17 VSS_57, J5 VSS_49, J8 VSS_50, J9 VSS_51, J10 VSS_52, J11 VSS_53, J12 VSS_54, J13 VSS_64, J17 VSS_56, K5 VSS_58, K8 VSS_59, K11 VSS_61, K12 VSS_63, K13 VSS_65, K17 VSS_67, K18 VSS_68, L3 VSS_70, L4 VSS_71, L5 VSS_72, L8 VSS_73, L12 VSS_77, L13 VSS_69, L14 VSS_66, L15 VSS_87, L16 VSS_88, L17 VSS_78, L18 VSS_79, M5 VSS_80, M8 VSS_81, M9 VSS_84, M10 VSS_85, M12 VSS_62, M13 VSS_60, M14 VSS_75, M15 VSS_82, M16 VSS_83, M17 VSS_86, N3 VSS_89, N5 VSS_90, N6 VSS_91, N7 VSS_92, N8 VSS_93, N9 VSS_96, N10 VSS_97, N14 VSS_74, N15 VSS_94, N16 VSS_95, P4 VSS_100, P5 VSS_101, P6 VSS_102, P7 VSS_103, P8 VSS_104, P9 VSS_105, P10 VSS_106, P11 VSS_107, P12 VSS_108, P13 VSS_109, P14 VSS_110, P15 VSS_112, P16 VSS_111, R5 VSS_113, R6 VSS_114, R7 VSS_115, R8 VSS_116, R9 VSS_117, R10 VSS_118, R11 VSS_119, R12 VSS_120, R13 VSS_121, R14 VSS_122, R15 VSS_123, R16 VSS_124, R17 VSS_125, T3 VSS_126, T4 VSS_127, T5 VSS_128, T6 VSS_129, T7 VSS_130, T8 VSS_131, T9 VSS_132, T10 VSS_133, T11 VSS_134, T12 VSS_36, T14 VSS_136, T15 VSS_137, T16 VSS_138, T17 VSS_139, T18 VSS_140, U5 VSS_141, U14 VSS_142, U15 VSS_143, U16 VSS_144, U17 VSS_145, U18 VSS_146, V2 VSS_147, V5 VSS_148, V16 VSS_149, V17 VSS_150, V18 VSS_151, V19 VSS_152, W3 VSS_153, W4 VSS_135, W11 VSS_35, W17 VSS_99, W18 VSS_76

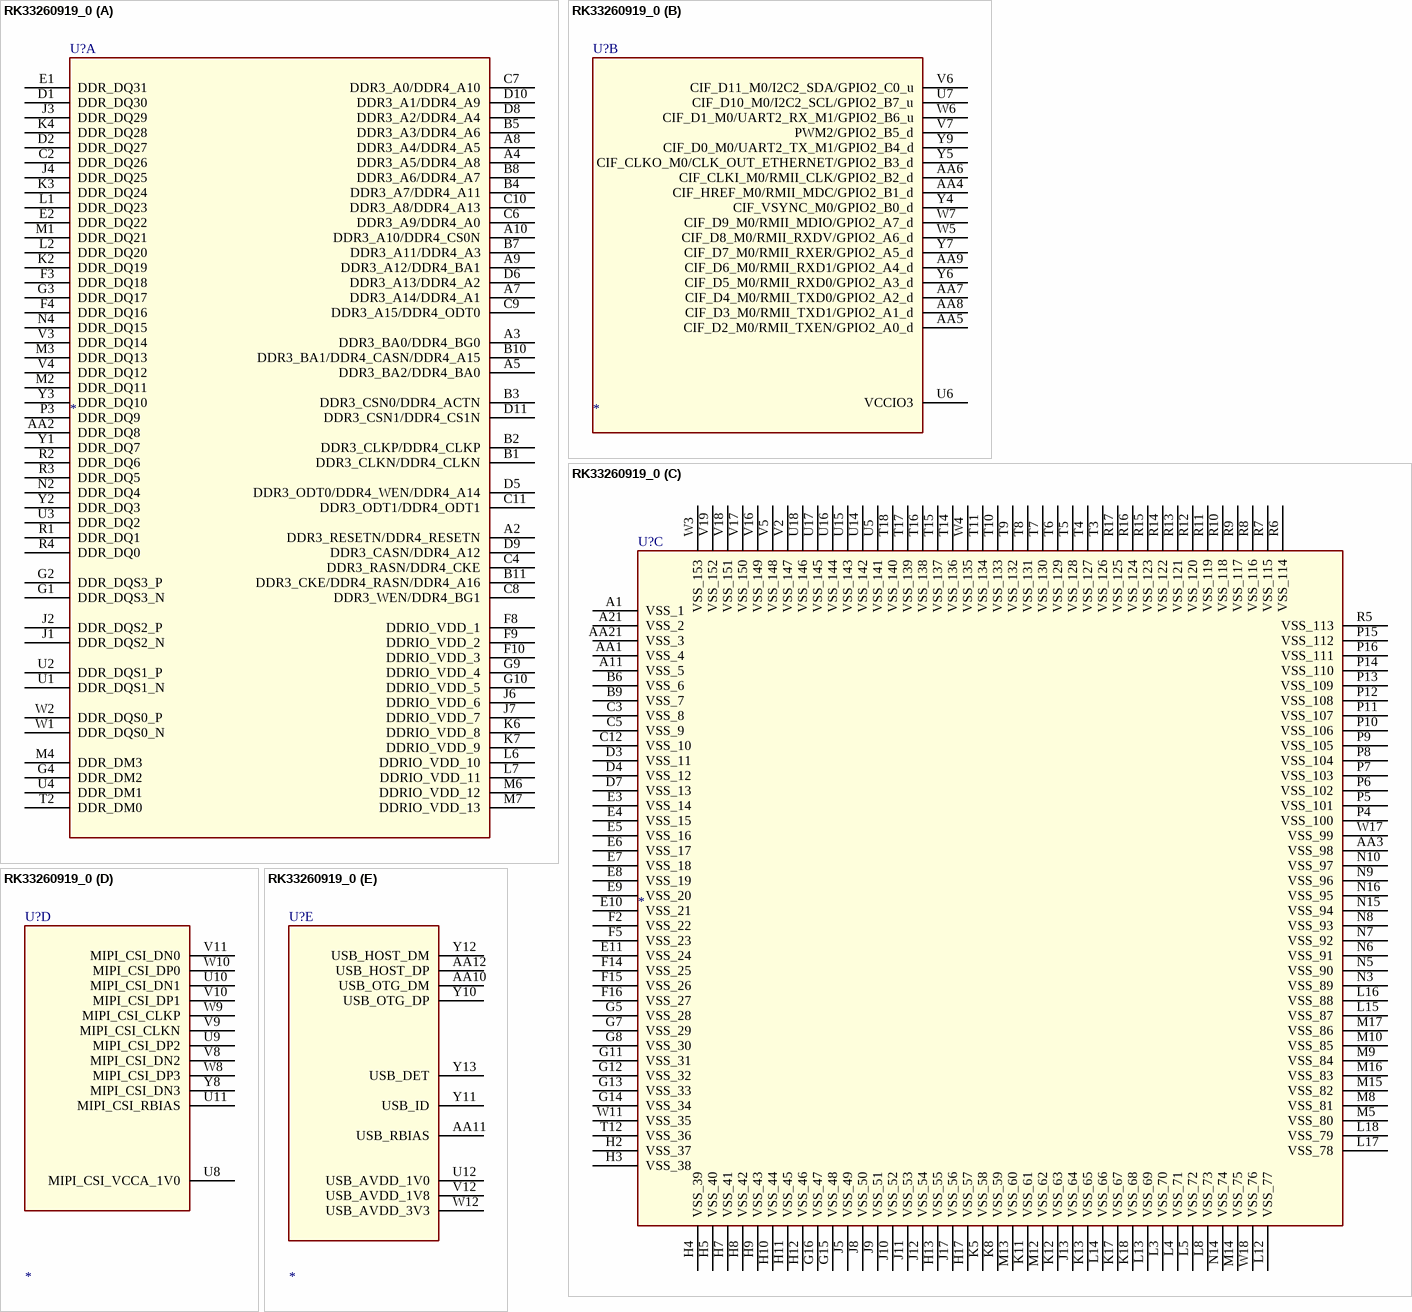
[diagram p306: symbol RK33260919_0]

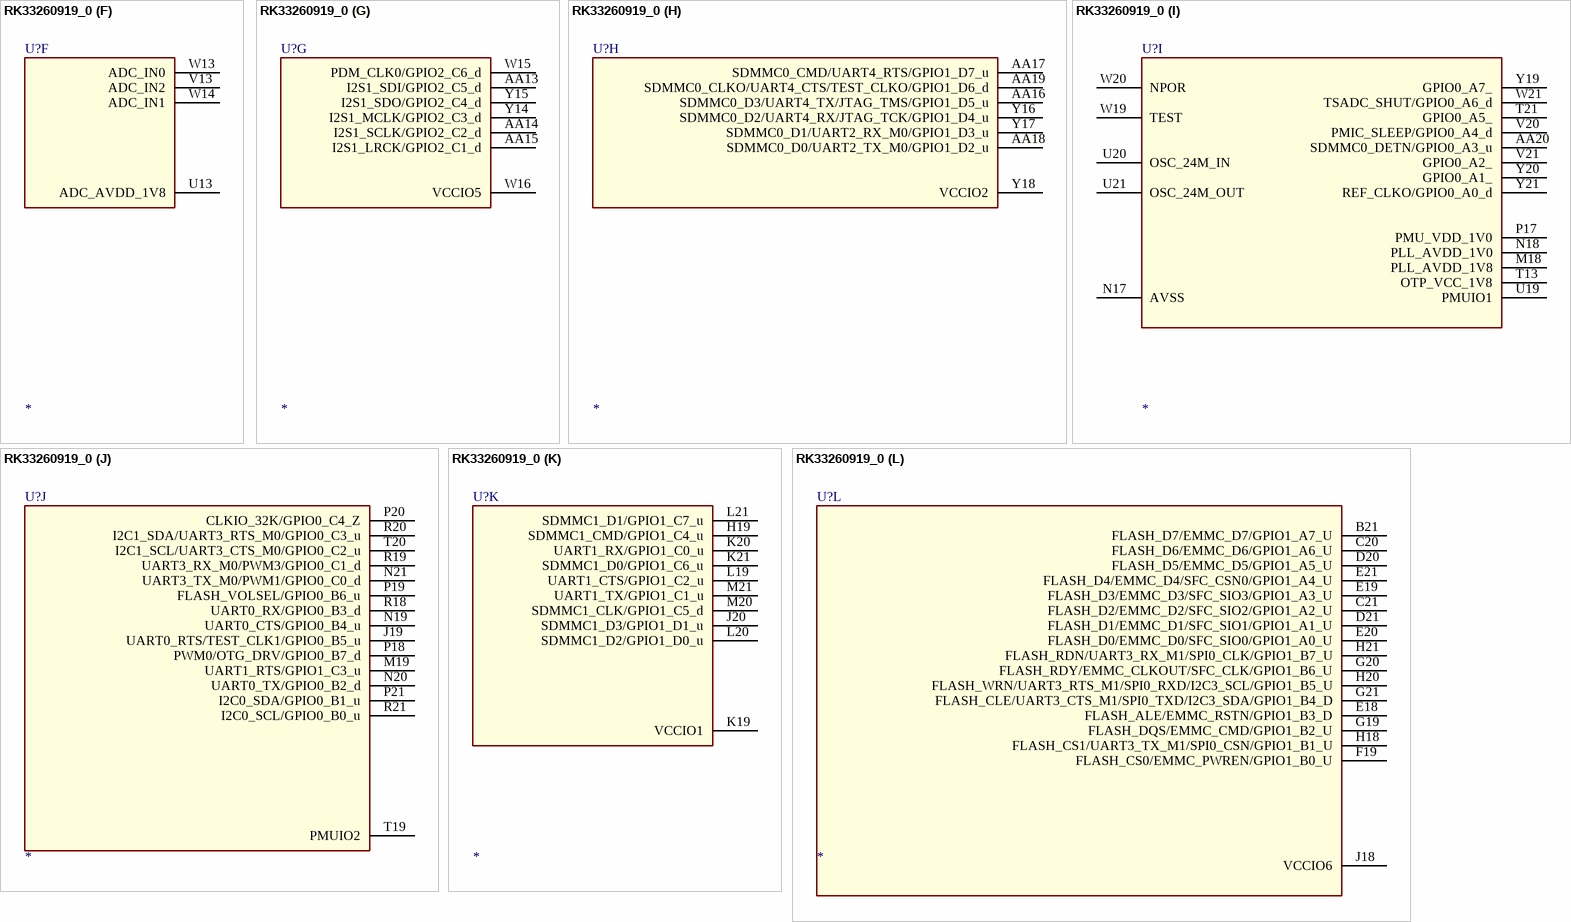
[diagram p307: symbol RK33260919_0]

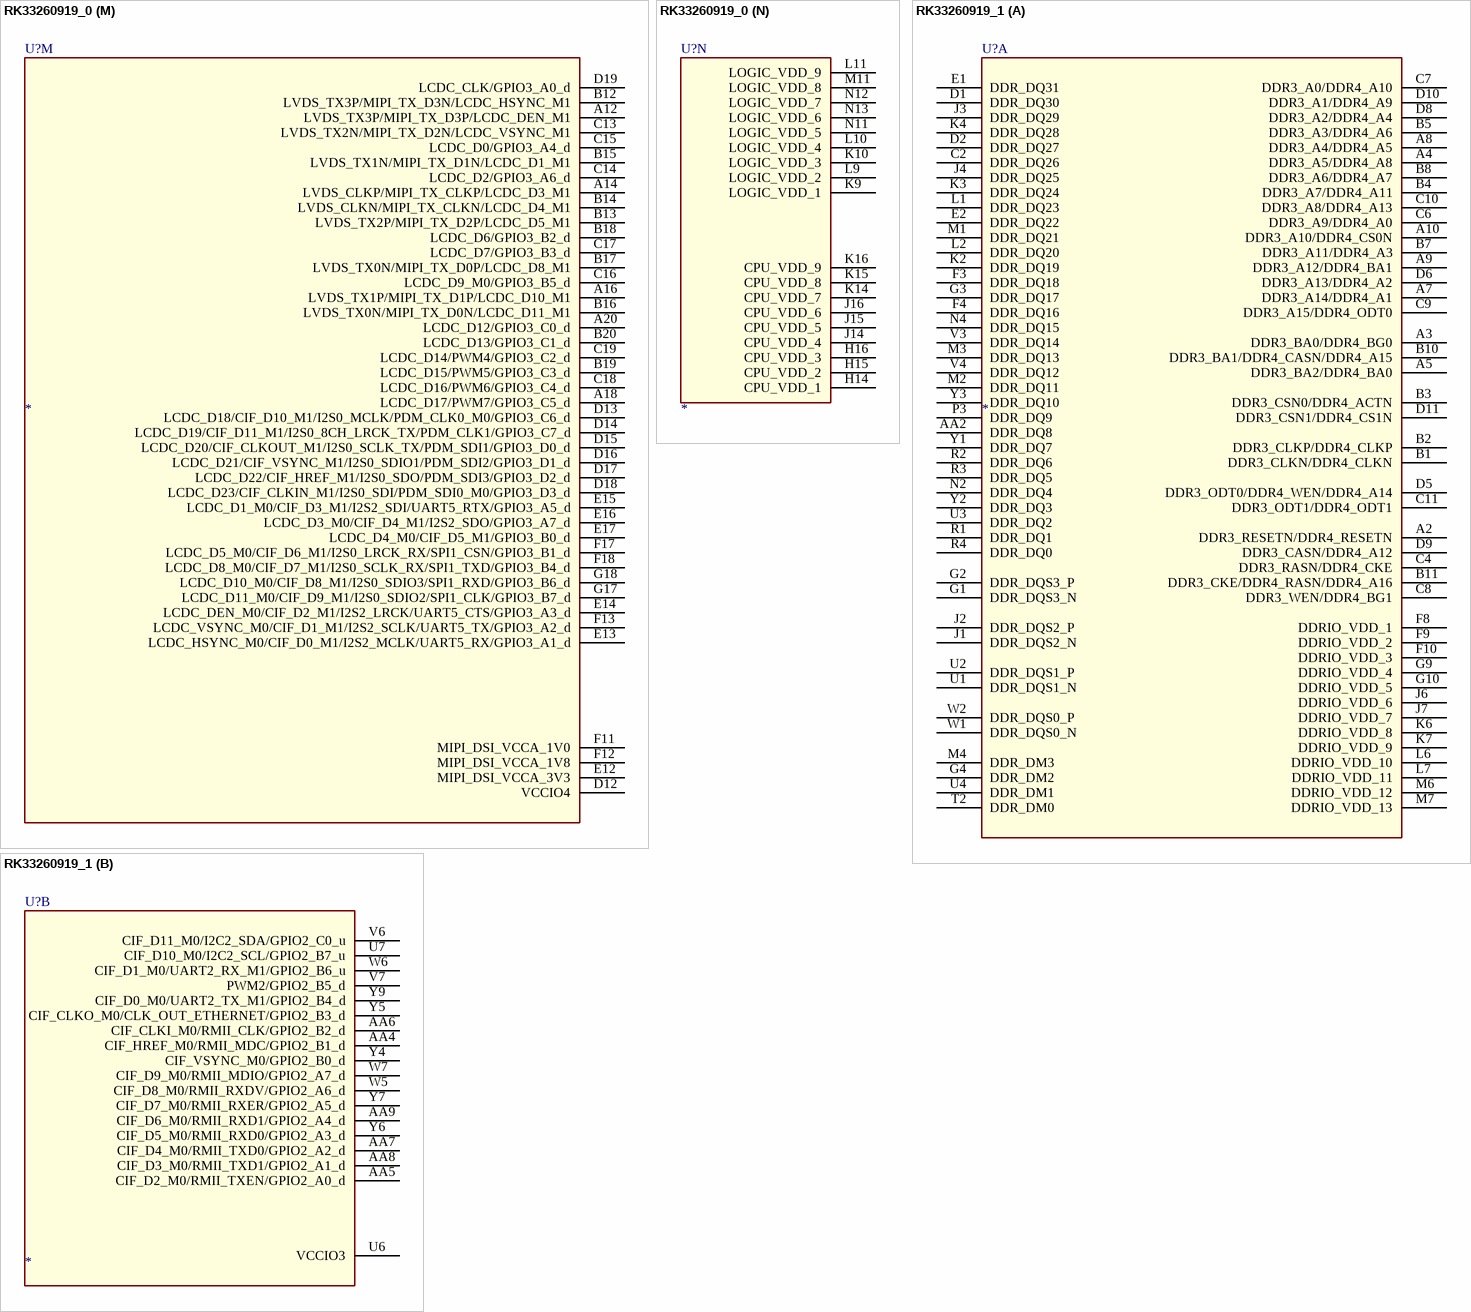
[diagram p308: symbols RK33260919_0 to RK33260919_1]

## RK33260919_0
designator U?
SPLIT_INST: TRUE; SWAP_INFO: (S1+S2+S3+S4+S5+S6+S7+S8+S9+S10+S11+S12+S13+S14)
part A pins: A2 DDR3_RESETN/DDR4_RESETN, A3 DDR3_BA0/DDR4_BG0, A4 DDR3_A5/DDR4_A8, A5 DDR3_BA2/DDR4_BA0, A7 DDR3_A14/DDR4_A1, A8 DDR3_A4/DDR4_A5, A9 DDR3_A12/DDR4_BA1, A10 DDR3_A10/DDR4_CS0N, AA2 DDR_DQ8, B1 DDR3_CLKN/DDR4_CLKN, B2 DDR3_CLKP/DDR4_CLKP, B3 DDR3_CSN0/DDR4_ACTN, B4 DDR3_A7/DDR4_A11, B5 DDR3_A3/DDR4_A6, B7 DDR3_A11/DDR4_A3, B8 DDR3_A6/DDR4_A7, B10 DDR3_BA1/DDR4_CASN/DDR4_A15, B11 DDR3_CKE/DDR4_RASN/DDR4_A16, C2 DDR_DQ26, C4 DDR3_RASN/DDR4_CKE, C6 DDR3_A9/DDR4_A0, C7 DDR3_A0/DDR4_A10, C8 DDR3_WEN/DDR4_BG1, C9 DDR3_A15/DDR4_ODT0, C10 DDR3_A8/DDR4_A13, C11 DDR3_ODT1/DDR4_ODT1, D1 DDR_DQ30, D2 DDR_DQ27, D5 DDR3_ODT0/DDR4_WEN/DDR4_A14, D6 DDR3_A13/DDR4_A2, D8 DDR3_A2/DDR4_A4, D9 DDR3_CASN/DDR4_A12, D10 DDR3_A1/DDR4_A9, D11 DDR3_CSN1/DDR4_CS1N, E1 DDR_DQ31, E2 DDR_DQ22, F3 DDR_DQ18, F4 DDR_DQ16, F8 DDRIO_VDD_1, F9 DDRIO_VDD_2, F10 DDRIO_VDD_3, G1 DDR_DQS3_N, G2 DDR_DQS3_P, G3 DDR_DQ17, G4 DDR_DM2, G9 DDRIO_VDD_4, G10 DDRIO_VDD_5, J1 DDR_DQS2_N, J2 DDR_DQS2_P, J3 DDR_DQ29, J4 DDR_DQ25, J6 DDRIO_VDD_6, J7 DDRIO_VDD_7, K2 DDR_DQ19, K3 DDR_DQ24, K4 DDR_DQ28, K6 DDRIO_VDD_8, K7 DDRIO_VDD_9, L1 DDR_DQ23, L2 DDR_DQ20, L6 DDRIO_VDD_10, L7 DDRIO_VDD_11, M1 DDR_DQ21, M2 DDR_DQ11, M3 DDR_DQ13, M4 DDR_DM3, M6 DDRIO_VDD_12, M7 DDRIO_VDD_13, N2 DDR_DQ4, N4 DDR_DQ15, P3 DDR_DQ9, R1 DDR_DQ1, R2 DDR_DQ6, R3 DDR_DQ5, R4 DDR_DQ0, T2 DDR_DM0, U1 DDR_DQS1_N, U2 DDR_DQS1_P, U3 DDR_DQ2, U4 DDR_DM1, V3 DDR_DQ14, V4 DDR_DQ12, W1 DDR_DQS0_N, W2 DDR_DQS0_P, Y1 DDR_DQ7, Y2 DDR_DQ3, Y3 DDR_DQ10
part B pins: AA4 CIF_HREF_M0/RMII_MDC/GPIO2_B1_d, AA5 CIF_D2_M0/RMII_TXEN/GPIO2_A0_d, AA6 CIF_CLKI_M0/RMII_CLK/GPIO2_B2_d, AA7 CIF_D4_M0/RMII_TXD0/GPIO2_A2_d, AA8 CIF_D3_M0/RMII_TXD1/GPIO2_A1_d, AA9 CIF_D6_M0/RMII_RXD1/GPIO2_A4_d, U6 VCCIO3, U7 CIF_D10_M0/I2C2_SCL/GPIO2_B7_u, V6 CIF_D11_M0/I2C2_SDA/GPIO2_C0_u, V7 PWM2/GPIO2_B5_d, W5 CIF_D8_M0/RMII_RXDV/GPIO2_A6_d, W6 CIF_D1_M0/UART2_RX_M1/GPIO2_B6_u, W7 CIF_D9_M0/RMII_MDIO/GPIO2_A7_d, Y4 CIF_VSYNC_M0/GPIO2_B0_d, Y5 CIF_CLKO_M0/CLK_OUT_ETHERNET/GPIO2_B3_d, Y6 CIF_D5_M0/RMII_RXD0/GPIO2_A3_d, Y7 CIF_D7_M0/RMII_RXER/GPIO2_A5_d, Y9 CIF_D0_M0/UART2_TX_M1/GPIO2_B4_d
part C pins: A1 VSS_1, A11 VSS_5, A21 VSS_2, AA1 VSS_4, AA3 VSS_98, AA21 VSS_3, B6 VSS_6, B9 VSS_7, C3 VSS_8, C5 VSS_9, C12 VSS_10, D3 VSS_11, D4 VSS_12, D7 VSS_13, E3 VSS_14, E4 VSS_15, E5 VSS_16, E6 VSS_17, E7 VSS_18, E8 VSS_19, E9 VSS_20, E10 VSS_21, E11 VSS_24, F2 VSS_22, F5 VSS_23, F14 VSS_25, F15 VSS_26, F16 VSS_27, G5 VSS_28, G7 VSS_29, G8 VSS_30, G11 VSS_31, G12 VSS_32, G13 VSS_33, G14 VSS_34, G15 VSS_48, G16 VSS_47, H2 VSS_37, H3 VSS_38, H4 VSS_39, H5 VSS_40, H7 VSS_41, H8 VSS_42, H9 VSS_43, H10 VSS_44, H11 VSS_45, H12 VSS_46, H13 VSS_55, H17 VSS_57, J5 VSS_49, J8 VSS_50, J9 VSS_51, J10 VSS_52, J11 VSS_53, J12 VSS_54, J13 VSS_64, J17 VSS_56, K5 VSS_58, K8 VSS_59, K11 VSS_61, K12 VSS_63, K13 VSS_65, K17 VSS_67, K18 VSS_68, L3 VSS_70, L4 VSS_71, L5 VSS_72, L8 VSS_73, L12 VSS_77, L13 VSS_69, L14 VSS_66, L15 VSS_87, L16 VSS_88, L17 VSS_78, L18 VSS_79, M5 VSS_80, M8 VSS_81, M9 VSS_84, M10 VSS_85, M12 VSS_62, M13 VSS_60, M14 VSS_75, M15 VSS_82, M16 VSS_83, M17 VSS_86, N3 VSS_89, N5 VSS_90, N6 VSS_91, N7 VSS_92, N8 VSS_93, N9 VSS_96, N10 VSS_97, N14 VSS_74, N15 VSS_94, N16 VSS_95, P4 VSS_100, P5 VSS_101, P6 VSS_102, P7 VSS_103, P8 VSS_104, P9 VSS_105, P10 VSS_106, P11 VSS_107, P12 VSS_108, P13 VSS_109, P14 VSS_110, P15 VSS_112, P16 VSS_111, R5 VSS_113, R6 VSS_114, R7 VSS_115, R8 VSS_116, R9 VSS_117, R10 VSS_118, R11 VSS_119, R12 VSS_120, R13 VSS_121, R14 VSS_122, R15 VSS_123, R16 VSS_124, R17 VSS_125, T3 VSS_126, T4 VSS_127, T5 VSS_128, T6 VSS_129, T7 VSS_130, T8 VSS_131, T9 VSS_132, T10 VSS_133, T11 VSS_134, T12 VSS_36, T14 VSS_136, T15 VSS_137, T16 VSS_138, T17 VSS_139, T18 VSS_140, U5 VSS_141, U14 VSS_142, U15 VSS_143, U16 VSS_144, U17 VSS_145, U18 VSS_146, V2 VSS_147, V5 VSS_148, V16 VSS_149, V17 VSS_150, V18 VSS_151, V19 VSS_152, W3 VSS_153, W4 VSS_135, W11 VSS_35, W17 VSS_99, W18 VSS_76
part D pins: U8 MIPI_CSI_VCCA_1V0, U9 MIPI_CSI_DP2, U10 MIPI_CSI_DN1, U11 MIPI_CSI_RBIAS, V8 MIPI_CSI_DN2, V9 MIPI_CSI_CLKN, V10 MIPI_CSI_DP1, V11 MIPI_CSI_DN0, W8 MIPI_CSI_DP3, W9 MIPI_CSI_CLKP, W10 MIPI_CSI_DP0, Y8 MIPI_CSI_DN3
part E pins: AA10 USB_OTG_DM, AA11 USB_RBIAS, AA12 USB_HOST_DP, U12 USB_AVDD_1V0, V12 USB_AVDD_1V8, W12 USB_AVDD_3V3, Y10 USB_OTG_DP, Y11 USB_ID, Y12 USB_HOST_DM, Y13 USB_DET
part F pins: U13 ADC_AVDD_1V8, V13 ADC_IN2, W13 ADC_IN0, W14 ADC_IN1
part G pins: AA13 I2S1_SDI/GPIO2_C5_d, AA14 I2S1_SCLK/GPIO2_C2_d, AA15 I2S1_LRCK/GPIO2_C1_d, W15 PDM_CLK0/GPIO2_C6_d, W16 VCCIO5, Y14 I2S1_MCLK/GPIO2_C3_d, Y15 I2S1_SDO/GPIO2_C4_d
part H pins: AA16 SDMMC0_D3/UART4_TX/JTAG_TMS/GPIO1_D5_u, AA17 SDMMC0_CMD/UART4_RTS/GPIO1_D7_u, AA18 SDMMC0_D0/UART2_TX_M0/GPIO1_D2_u, AA19 SDMMC0_CLKO/UART4_CTS/TEST_CLKO/GPIO1_D6_d, Y16 SDMMC0_D2/UART4_RX/JTAG_TCK/GPIO1_D4_u, Y17 SDMMC0_D1/UART2_RX_M0/GPIO1_D3_u, Y18 VCCIO2
part I pins: AA20 SDMMC0_DETN/GPIO0_A3_u, M18 PLL_AVDD_1V8, N17 AVSS, N18 PLL_AVDD_1V0, P17 PMU_VDD_1V0, T13 OTP_VCC_1V8, T21 GPIO0_A5_, U19 PMUIO1, U20 OSC_24M_IN, U21 OSC_24M_OUT, V20 PMIC_SLEEP/GPIO0_A4_d, V21 GPIO0_A2_, W19 TEST, W20 NPOR, W21 TSADC_SHUT/GPIO0_A6_d, Y19 GPIO0_A7_, Y20 GPIO0_A1_, Y21 REF_CLKO/GPIO0_A0_d
part J pins: J19 UART0_RTS/TEST_CLK1/GPIO0_B5_u, M19 UART1_RTS/GPIO1_C3_u, N19 UART0_CTS/GPIO0_B4_u, N20 UART0_TX/GPIO0_B2_d, N21 UART3_TX_M0/PWM1/GPIO0_C0_d, P18 PWM0/OTG_DRV/GPIO0_B7_d, P19 FLASH_VOLSEL/GPIO0_B6_u, P20 CLKIO_32K/GPIO0_C4_Z, P21 I2C0_SDA/GPIO0_B1_u, R18 UART0_RX/GPIO0_B3_d, R19 UART3_RX_M0/PWM3/GPIO0_C1_d, R20 I2C1_SDA/UART3_RTS_M0/GPIO0_C3_u, R21 I2C0_SCL/GPIO0_B0_u, T19 PMUIO2, T20 I2C1_SCL/UART3_CTS_M0/GPIO0_C2_u
part K pins: H19 SDMMC1_CMD/GPIO1_C4_u, J20 SDMMC1_D3/GPIO1_D1_u, K19 VCCIO1, K20 UART1_RX/GPIO1_C0_u, K21 SDMMC1_D0/GPIO1_C6_u, L19 UART1_CTS/GPIO1_C2_u, L20 SDMMC1_D2/GPIO1_D0_u, L21 SDMMC1_D1/GPIO1_C7_u, M20 SDMMC1_CLK/GPIO1_C5_d, M21 UART1_TX/GPIO1_C1_u
part L pins: B21 FLASH_D7/EMMC_D7/GPIO1_A7_U, C20 FLASH_D6/EMMC_D6/GPIO1_A6_U, C21 FLASH_D2/EMMC_D2/SFC_SIO2/GPIO1_A2_U, D20 FLASH_D5/EMMC_D5/GPIO1_A5_U, D21 FLASH_D1/EMMC_D1/SFC_SIO1/GPIO1_A1_U, E18 FLASH_ALE/EMMC_RSTN/GPIO1_B3_D, E19 FLASH_D3/EMMC_D3/SFC_SIO3/GPIO1_A3_U, E20 FLASH_D0/EMMC_D0/SFC_SIO0/GPIO1_A0_U, E21 FLASH_D4/EMMC_D4/SFC_CSN0/GPIO1_A4_U, F19 FLASH_CS0/EMMC_PWREN/GPIO1_B0_U, G19 FLASH_DQS/EMMC_CMD/GPIO1_B2_U, G20 FLASH_RDY/EMMC_CLKOUT/SFC_CLK/GPIO1_B6_U, G21 FLASH_CLE/UART3_CTS_M1/SPI0_TXD/I2C3_SDA/GPIO1_B4_D, H18 FLASH_CS1/UART3_TX_M1/SPI0_CSN/GPIO1_B1_U, H20 FLASH_WRN/UART3_RTS_M1/SPI0_RXD/I2C3_SCL/GPIO1_B5_U, H21 FLASH_RDN/UART3_RX_M1/SPI0_CLK/GPIO1_B7_U, J18 VCCIO6
part M pins: A12 LVDS_TX3P/MIPI_TX_D3P/LCDC_DEN_M1, A14 LVDS_CLKP/MIPI_TX_CLKP/LCDC_D3_M1, A16 LVDS_TX1P/MIPI_TX_D1P/LCDC_D10_M1, A18 LCDC_D17/PWM7/GPIO3_C5_d, A20 LCDC_D12/GPIO3_C0_d, B12 LVDS_TX3P/MIPI_TX_D3N/LCDC_HSYNC_M1, B13 LVDS_TX2P/MIPI_TX_D2P/LCDC_D5_M1, B14 LVDS_CLKN/MIPI_TX_CLKN/LCDC_D4_M1, B15 LVDS_TX1N/MIPI_TX_D1N/LCDC_D1_M1, B16 LVDS_TX0N/MIPI_TX_D0N/LCDC_D11_M1, B17 LVDS_TX0N/MIPI_TX_D0P/LCDC_D8_M1, B18 LCDC_D6/GPIO3_B2_d, B19 LCDC_D15/PWM5/GPIO3_C3_d, B20 LCDC_D13/GPIO3_C1_d, C13 LVDS_TX2N/MIPI_TX_D2N/LCDC_VSYNC_M1, C14 LCDC_D2/GPIO3_A6_d, C15 LCDC_D0/GPIO3_A4_d, C16 LCDC_D9_M0/GPIO3_B5_d, C17 LCDC_D7/GPIO3_B3_d, C18 LCDC_D16/PWM6/GPIO3_C4_d, C19 LCDC_D14/PWM4/GPIO3_C2_d, D12 VCCIO4, D13 LCDC_D18/CIF_D10_M1/I2S0_MCLK/PDM_CLK0_M0/GPIO3_C6_d, D14 LCDC_D19/CIF_D11_M1/I2S0_8CH_LRCK_TX/PDM_CLK1/GPIO3_C7_d, D15 LCDC_D20/CIF_CLKOUT_M1/I2S0_SCLK_TX/PDM_SDI1/GPIO3_D0_d, D16 LCDC_D21/CIF_VSYNC_M1/I2S0_SDIO1/PDM_SDI2/GPIO3_D1_d, D17 LCDC_D22/CIF_HREF_M1/I2S0_SDO/PDM_SDI3/GPIO3_D2_d, D18 LCDC_D23/CIF_CLKIN_M1/I2S0_SDI/PDM_SDI0_M0/GPIO3_D3_d, D19 LCDC_CLK/GPIO3_A0_d, E12 MIPI_DSI_VCCA_3V3, E13 LCDC_HSYNC_M0/CIF_D0_M1/I2S2_MCLK/UART5_RX/GPIO3_A1_d, E14 LCDC_DEN_M0/CIF_D2_M1/I2S2_LRCK/UART5_CTS/GPIO3_A3_d, E15 LCDC_D1_M0/CIF_D3_M1/I2S2_SDI/UART5_RTX/GPIO3_A5_d, E16 LCDC_D3_M0/CIF_D4_M1/I2S2_SDO/GPIO3_A7_d, E17 LCDC_D4_M0/CIF_D5_M1/GPIO3_B0_d, F11 MIPI_DSI_VCCA_1V0, F12 MIPI_DSI_VCCA_1V8, F13 LCDC_VSYNC_M0/CIF_D1_M1/I2S2_SCLK/UART5_TX/GPIO3_A2_d, F17 LCDC_D5_M0/CIF_D6_M1/I2S0_LRCK_RX/SPI1_CSN/GPIO3_B1_d, F18 LCDC_D8_M0/CIF_D7_M1/I2S0_SCLK_RX/SPI1_TXD/GPIO3_B4_d, G17 LCDC_D11_M0/CIF_D9_M1/I2S0_SDIO2/SPI1_CLK/GPIO3_B7_d, G18 LCDC_D10_M0/CIF_D8_M1/I2S0_SDIO3/SPI1_RXD/GPIO3_B6_d
part N pins: H14 CPU_VDD_1, H15 CPU_VDD_2, H16 CPU_VDD_3, J14 CPU_VDD_4, J15 CPU_VDD_5, J16 CPU_VDD_6, K9 LOGIC_VDD_1, K10 LOGIC_VDD_3, K14 CPU_VDD_7, K15 CPU_VDD_8, K16 CPU_VDD_9, L9 LOGIC_VDD_2, L10 LOGIC_VDD_4, L11 LOGIC_VDD_9, M11 LOGIC_VDD_8, N11 LOGIC_VDD_5, N12 LOGIC_VDD_7, N13 LOGIC_VDD_6

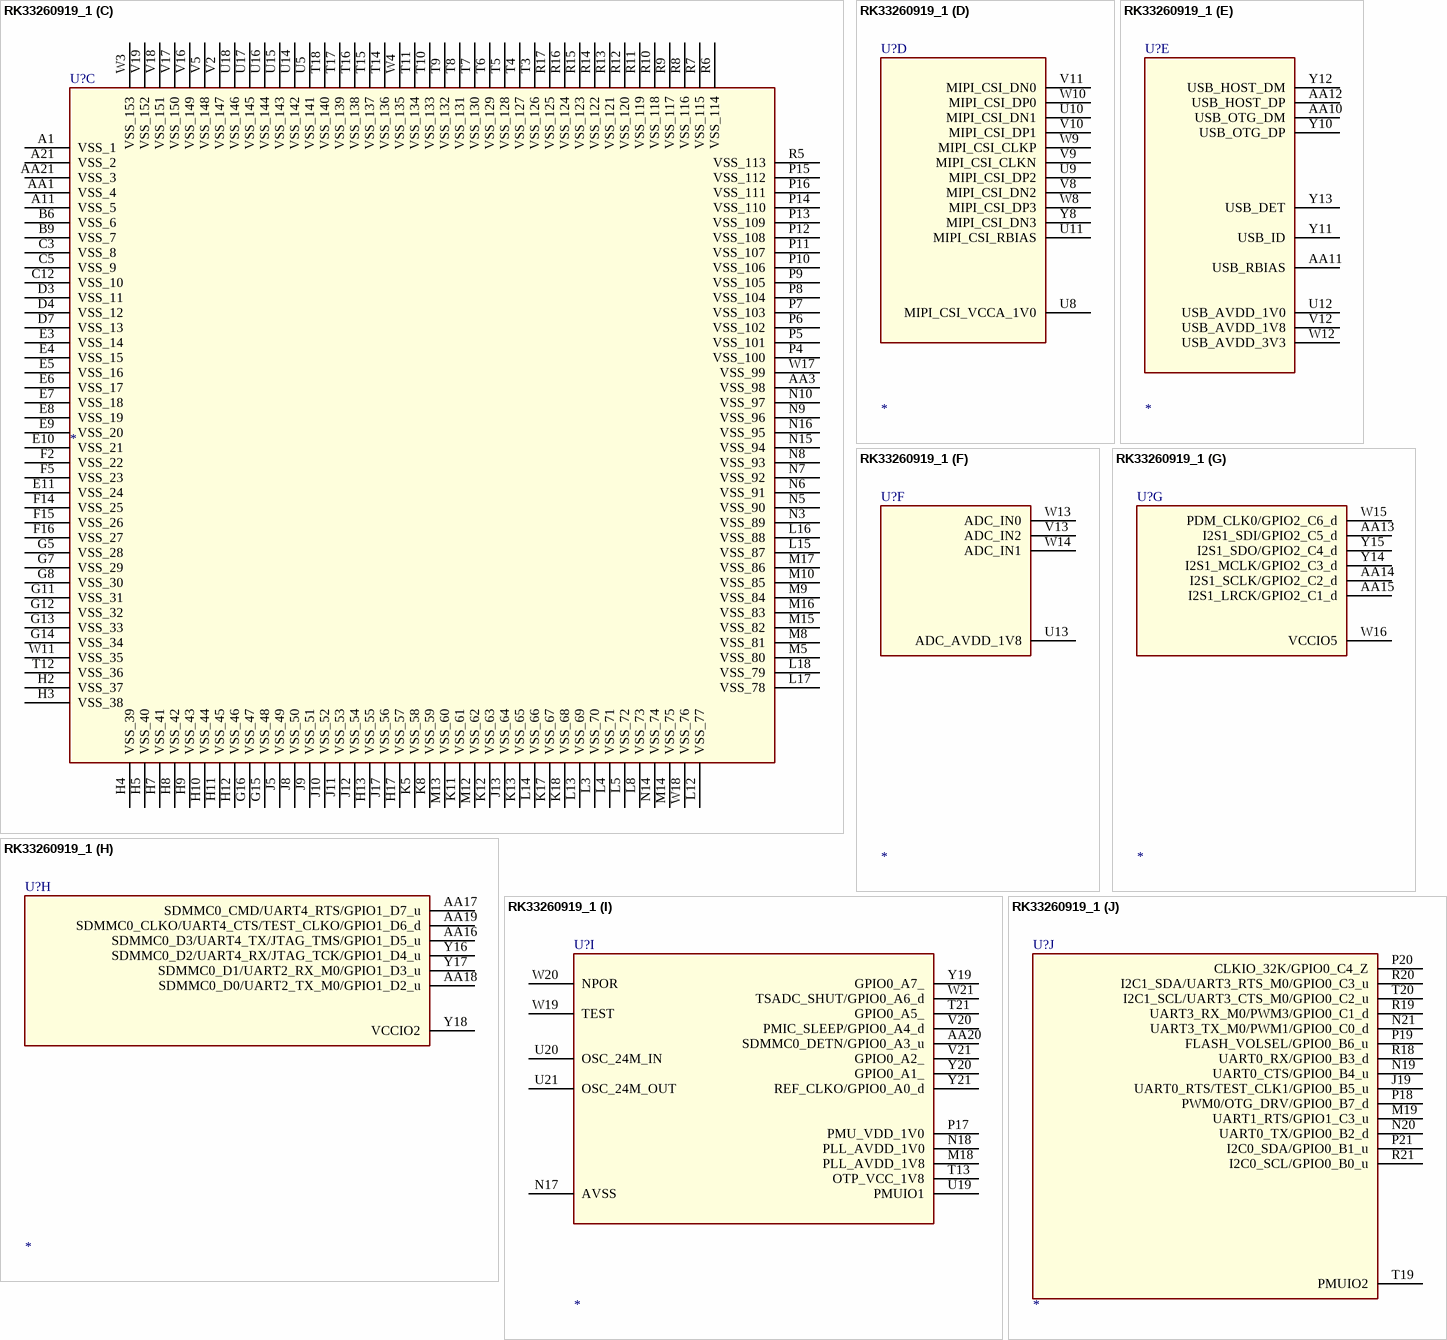
[diagram p309: symbol RK33260919_1]

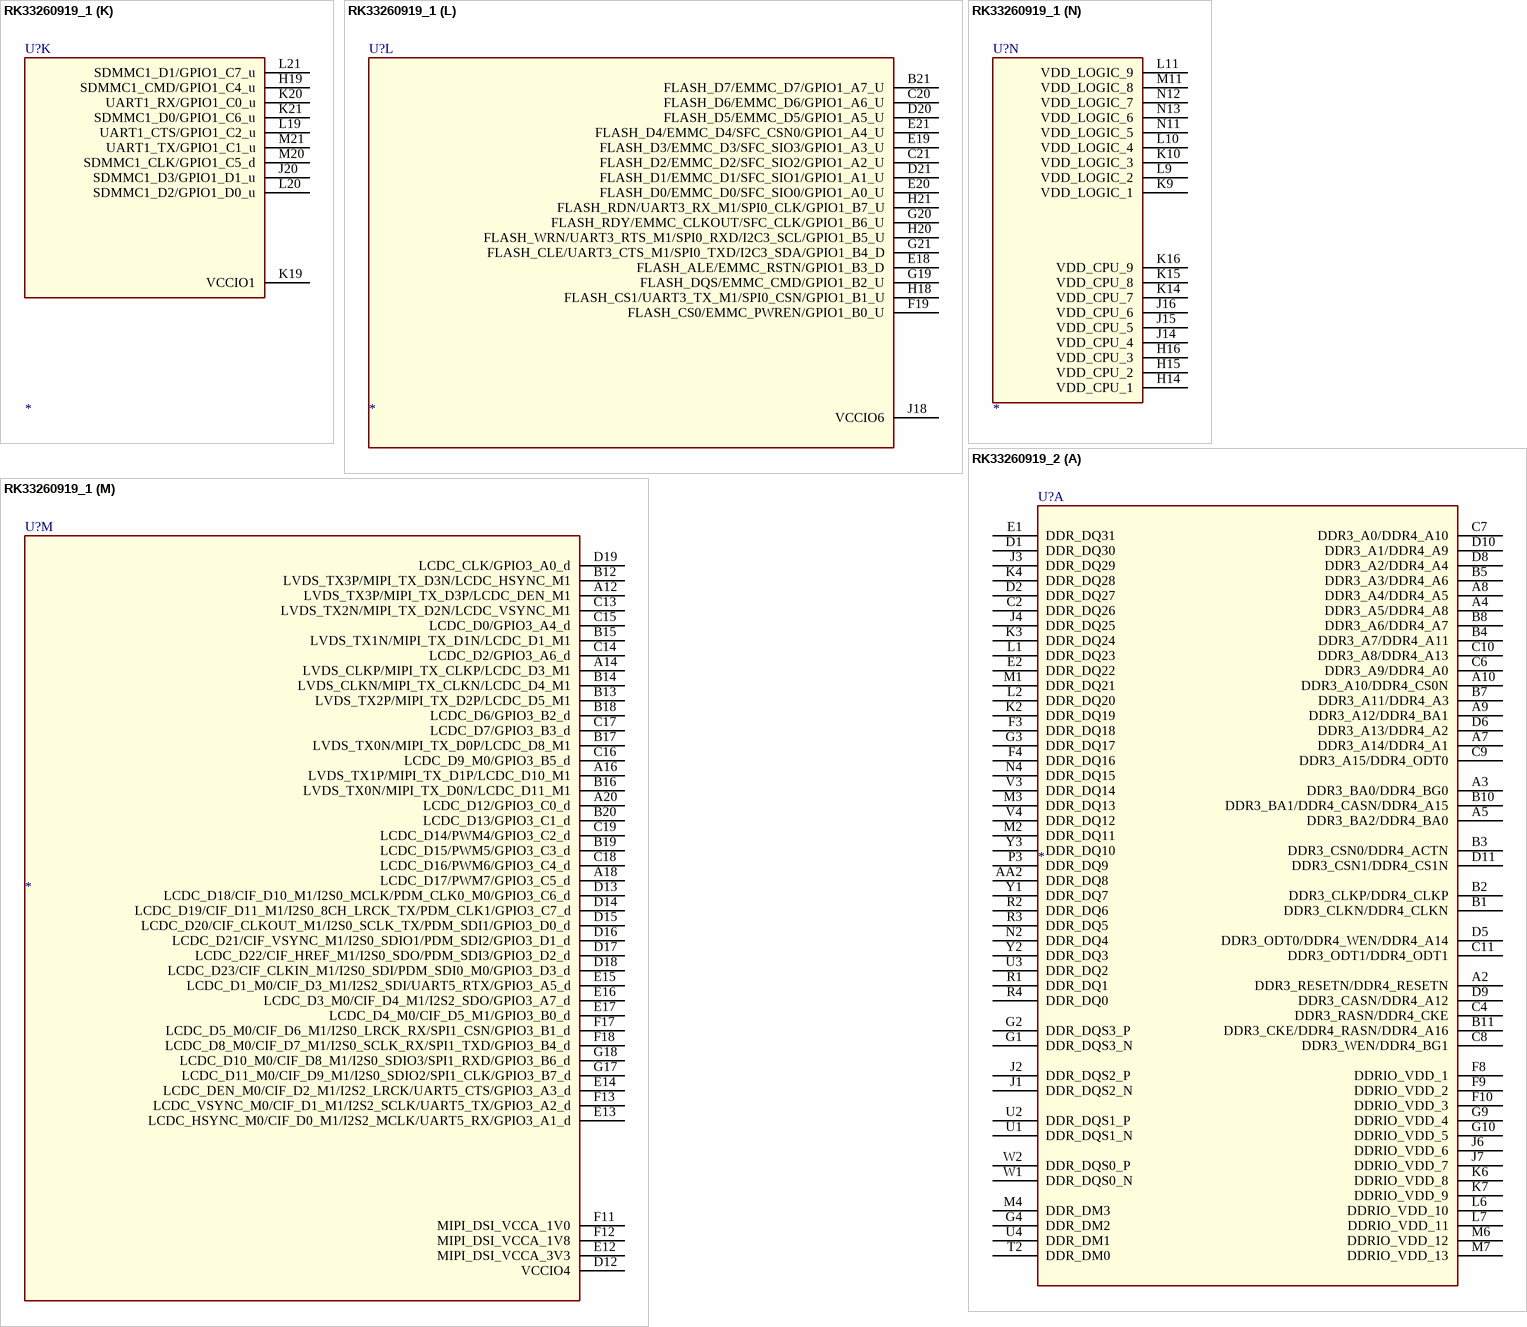
[diagram p310: symbols RK33260919_1 to RK33260919_2]